# Altium schematic symbol library libSCH.SchLib: 587 symbols (part 4 of 5)
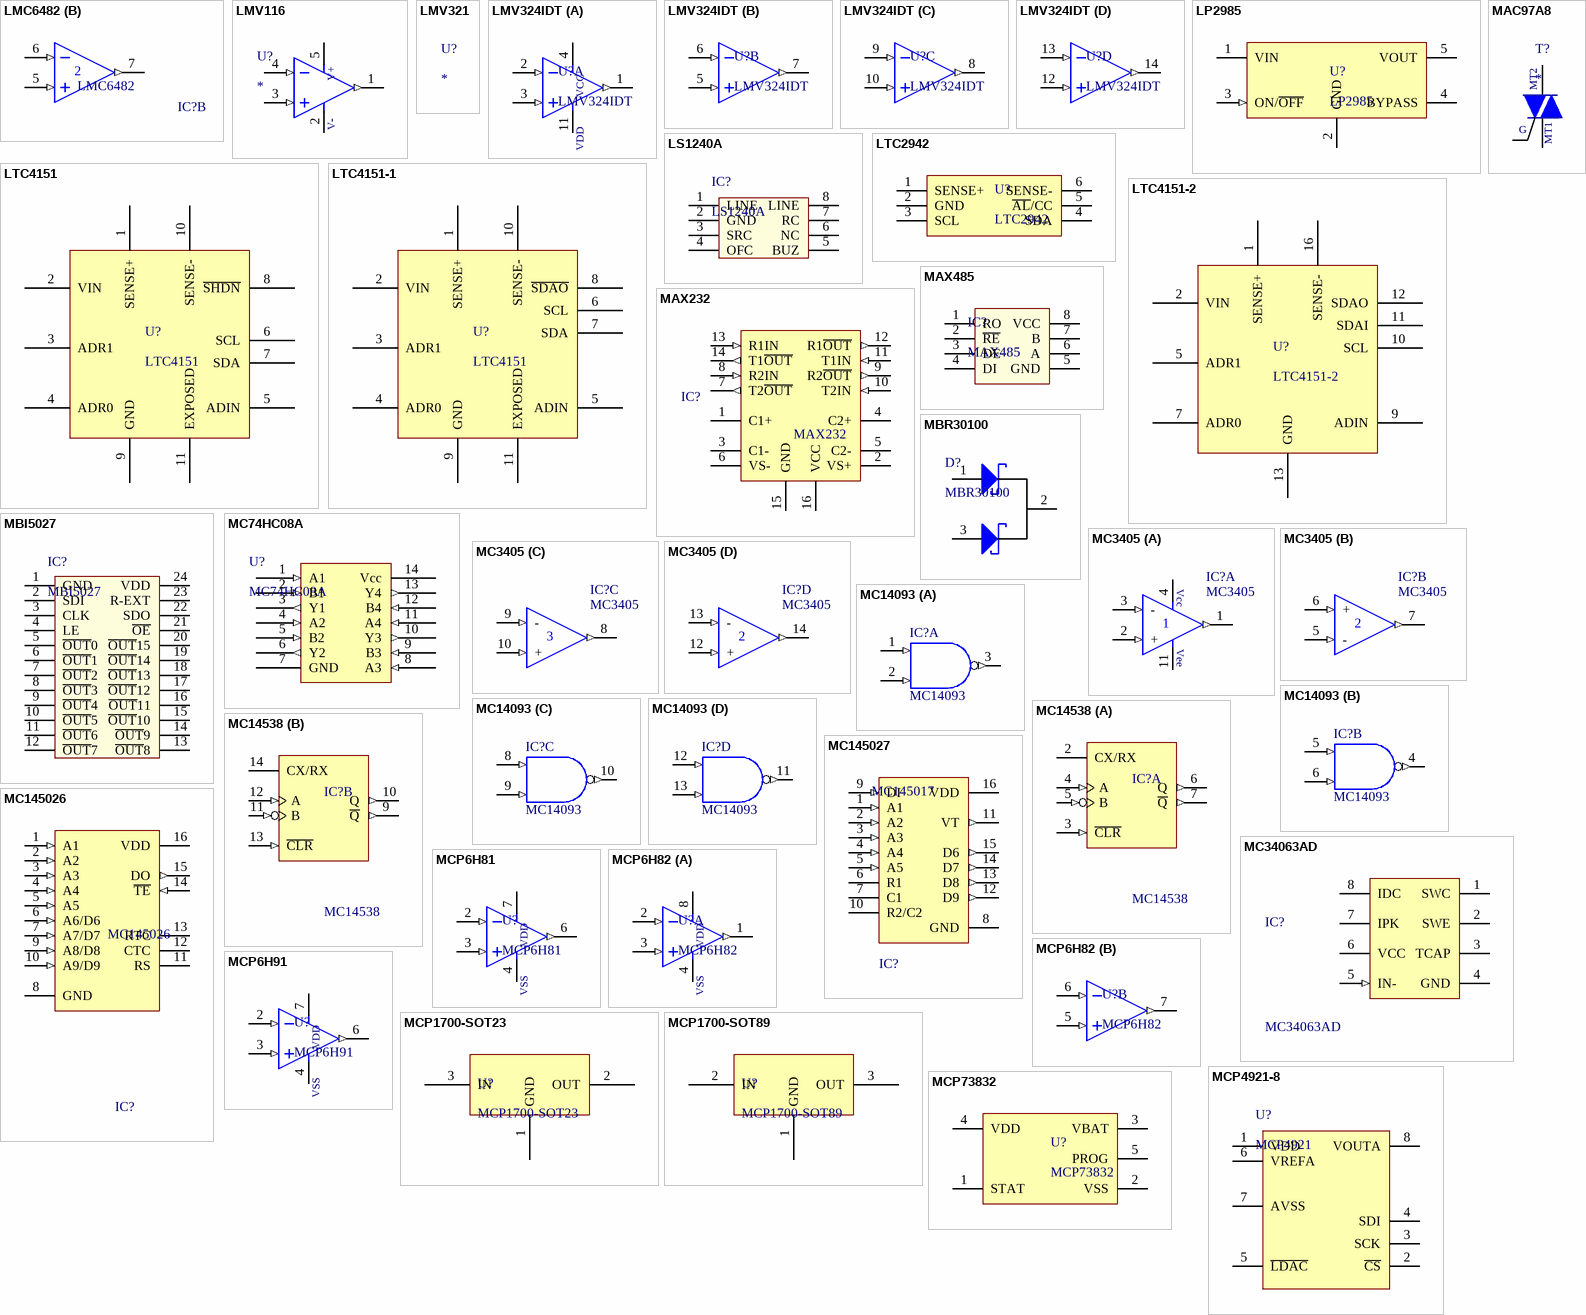
[diagram p28: symbols LMC6482 to MCP73832]

## MCP6H82
designator U?
5.5 MHz, 12V Op Amps
footprint SO-8_L (8-Pin Small Outline Integrated Circuit 1.27 mm Pitch, IPC high Density)
part A pins: 1 OUTA (out), 2 INA- (in), 3 INA+ (in), 4 VSS (power), 8 VDD (power)
part B pins: 5 INB+ (in), 6 INB- (in), 7 OUTB (out)

## MCP6H91
designator U?
10 MHz, 12V Op Amps
footprint SO-8_L (8-Pin Small Outline Integrated Circuit 1.27 mm Pitch, IPC high Density)
pins: 2 IN- (in), 3 IN+ (in), 4 VSS (power), 6 OUT (out), 7 VDD (power)

## MCP1700-SOT23
designator U?
LDO
footprint SOT23 (SOT 23 _ 1-3-2)
pins: 1 GND, 2 OUT, 3 IN

## MCP1700-SOT89
designator U?
LDO
footprint SOT89L (SOT89, 3-Leads, Body 4.5x2.4 mm, Pitch 1.5mm, Lead Span 4.1mm, IPC High Density)
footprint SOT89M (SOT89, 3-Leads, Body 4.5x2.4 mm, Pitch 1.5mm, Lead Span 4.1mm, IPC Low Density)
footprint SOT89N (SOT89, 3-Leads, Body 4.5x2.4 mm, Pitch 1.5mm, Lead Span 4.1mm, IPC Medium Density)
pins: 1 GND, 2 IN, 3 OUT

## MCP4921-8
designator U?, comment MCP4921
12-Bit DAC with SPI™ Interface
footprint DIP8/W0.3 (8 PIN, W 300mil, Pin to pin 100mil)
footprint SOP8
pins: 1 VDD, 2 ~{CS}, 3 SCK, 4 SDI, 5 ~{LDAC}, 6 VREFA, 7 AVSS, 8 VOUTA

## MCP73832
designator U?
Miniature Single-Cell, Fully Integrated Li-Ion,  Li-Polymer Charge Management Controllers
footprint SOT-23-5
pins: 1 STAT, 2 VSS, 3 VBAT, 4 VDD, 5 PROG

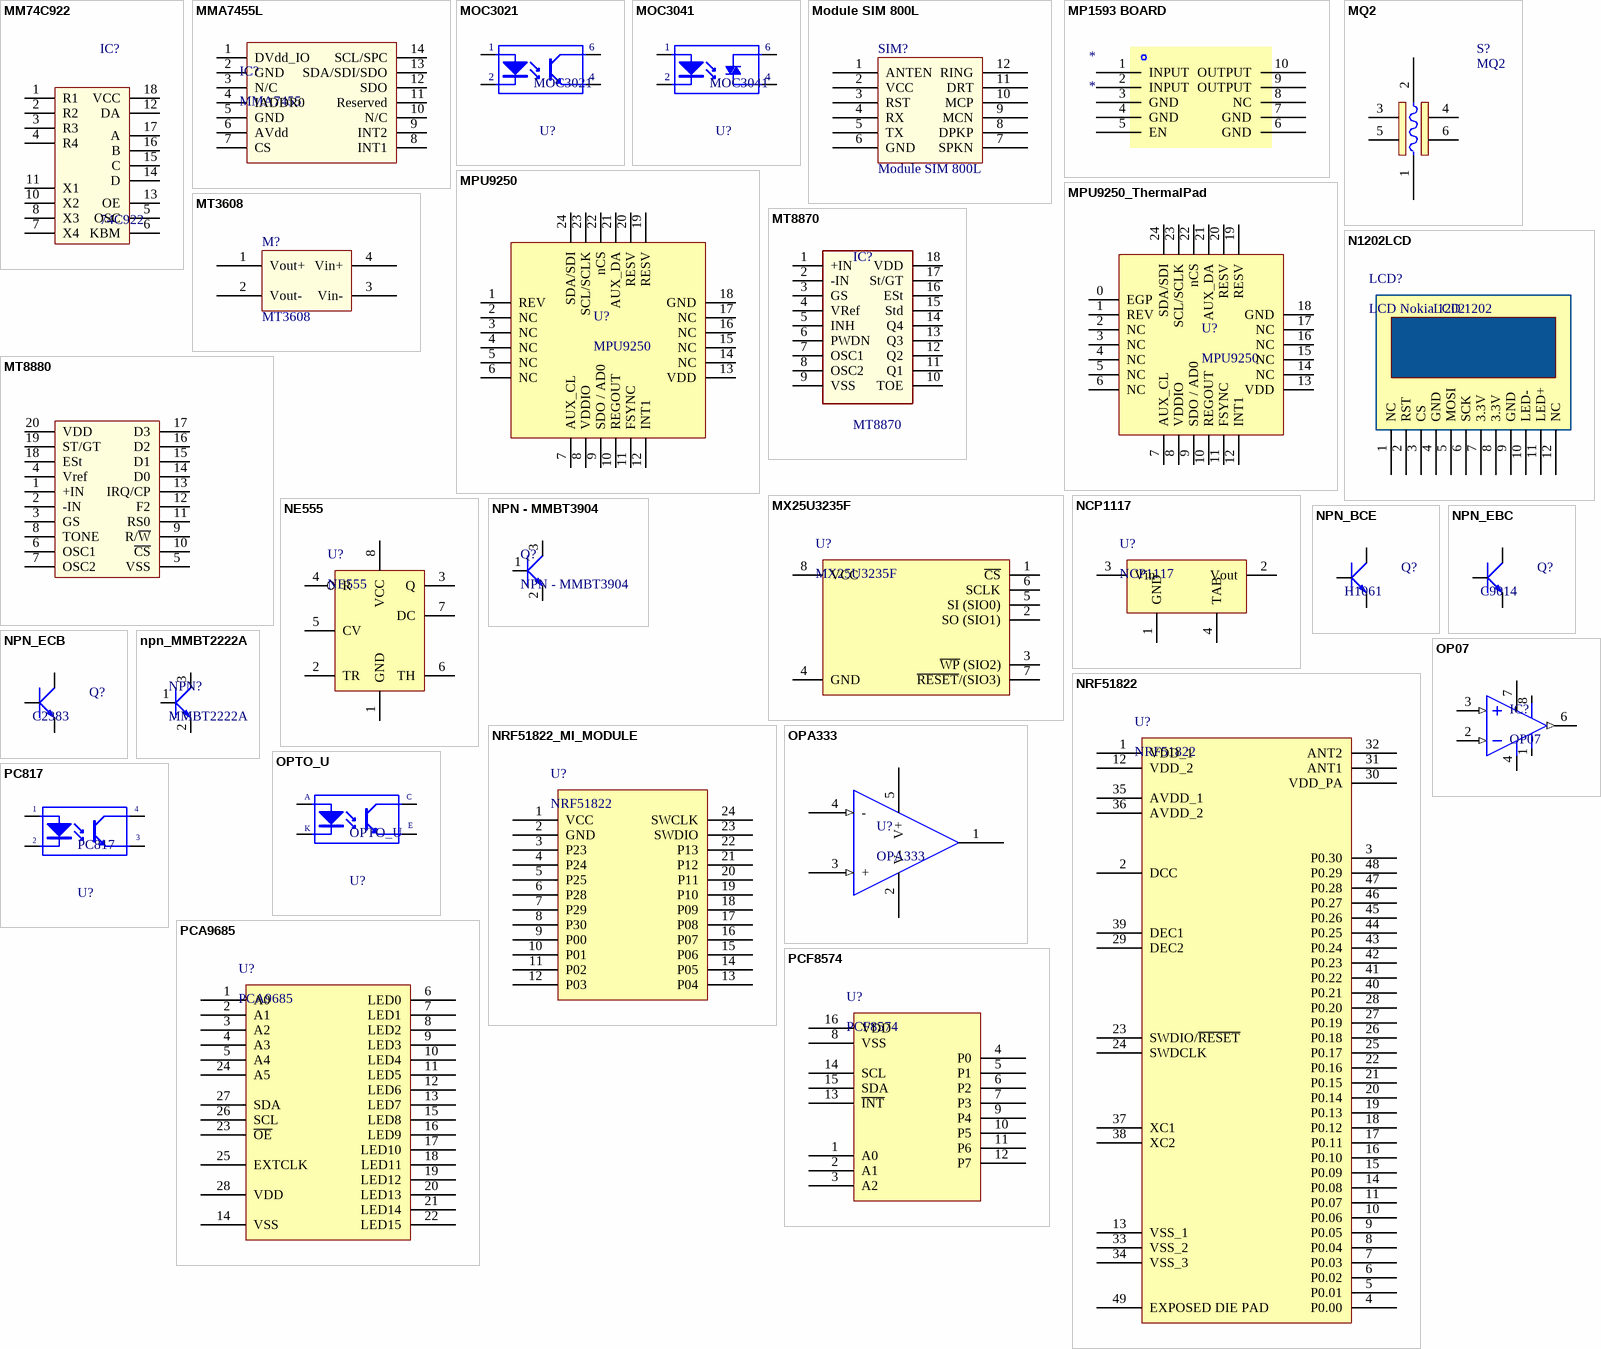
[diagram p17: symbols MM74C922 to PCF8574]

## MM74C922
designator IC?, comment 74C922
16 Key Encoder With Debouncer; Value: MM74C922
footprint DIP18/W0.3 (18 PIN, W 300mil, Pin to pin 100mil)
pins: 1 R1, 2 R2, 3 R3, 4 R4, 5 OSC, 6 KBM, 7 X4, 8 X3, 9 GND hidden to GND, 10 X2, 11 X1, 12 DA, 13 OE, 14 D, 15 C, 16 B, 17 A, 18 VCC

## MMA7455L
designator IC?, comment MMA7455
±2g/±4g/±8g Three Axis Low-g  Digital Output Accelerometer
footprint MMA7455 (Footprint not found)
pins: 1 DVdd_IO, 2 GND, 3 N/C, 4 IADDR0, 5 GND, 6 AVdd, 7 CS, 8 INT1, 9 INT2, 10 N/C, 11 Reserved, 12 SDO, 13 SDA/SDI/SDO, 14 SCL/SPC

## MOC3021
designator U?
Single Opto; Value: MOC3021
footprint DIP6/W0.3 (6 PIN, W 300mil, Pin to pin 100mil)
pins: 1 A "Anode", 2 K "Cathode", 4 E "Emitter", 6 C "Collector"

## MOC3041
designator U?
Single Opto; Value: MOC3021
footprint DIP6/W0.3 (6 PIN, W 300mil, Pin to pin 100mil)
pins: 1 A "Anode", 2 K "Cathode", 4 E "Emitter", 6 C "Collector"

## Module SIM 800L
designator SIM?
footprint SIM800
footprint SIM800L
pins: 1 ANTEN, 2 VCC, 3 RST, 4 RX, 5 TX, 6 GND, 7 SPKN, 8 DPKP, 9 MCN, 10 MCP, 11 DRT, 12 RING

## MP1593 BOARD
designator *
pins: 1 INPUT, 2 INPUT, 3 GND, 4 GND, 5 EN, 6 GND, 7 GND, 8 NC, 9 OUTPUT, 10 OUTPUT

## MPU9250
designator U?
footprint QFN24 3.0x3.0x0.9
pins: 1 REV, 2 NC, 3 NC, 4 NC, 5 NC, 6 NC, 7 AUX_CL, 8 VDDIO, 9 SDO / AD0, 10 REGOUT, 11 FSYNC, 12 INT1, 13 VDD, 14 NC, 15 NC, 16 NC, 17 NC, 18 GND, 19 RESV, 20 RESV, 21 AUX_DA, 22 nCS, 23 SCL/SCLK, 24 SDA/SDI

## MPU9250_ThermalPad
designator U?, comment MPU9250
footprint QFN24 3.0x3.0x0.9 - ThermalPad
pins: 0 EGP, 1 REV, 2 NC, 3 NC, 4 NC, 5 NC, 6 NC, 7 AUX_CL, 8 VDDIO, 9 SDO / AD0, 10 REGOUT, 11 FSYNC, 12 INT1, 13 VDD, 14 NC, 15 NC, 16 NC, 17 NC, 18 GND, 19 RESV, 20 RESV, 21 AUX_DA, 22 nCS, 23 SCL/SCLK, 24 SDA/SDI

## MQ2
designator S?
footprint MQ2
pins: 1 HEAT1, 2 HEAT2, 3 B, 4 A, 5 B, 6 A

## MT3608
designator M?
footprint MT3680
footprint MT3680
pins: 1 Vout+, 2 Vout-, 3 Vin-, 4 Vin+

## MT8870
designator IC?
DTMF RECEIVER IC MT8870 TESTER; Value: MT8068
footprint DIP18/W0.3 (18 PIN, W 300mil, Pin to pin 100mil)
pins: 1 +IN, 2 -IN, 3 GS, 4 VRef, 5 INH, 6 PWDN, 7 OSC1, 8 OSC2, 9 VSS, 10 TOE, 11 Q1, 12 Q2, 13 Q3, 14 Q4, 15 Std, 16 ESt, 17 St/GT, 18 VDD

## MT8880
designator IC?, comment MT8880C
Integrated DTMF Transceiver; Value: DIP20; Value: MT8880C
footprint DIP20/W0.3 (DIP 20, 20 PIN, W 300mil, Pin to pin 100mil)
pins: 1 +IN, 2 -IN, 3 GS, 4 Vref, 5 VSS, 6 OSC1, 7 OSC2, 8 TONE, 9 R/~{W}, 10 ~{CS}, 11 RS0, 12 F2, 13 IRQ/CP, 14 D0, 15 D1, 16 D2, 17 D3, 18 ESt, 19 ST/GT, 20 VDD

## MX25U3235F
designator U?
1.8V 32M-BIT / SERIAL FLASH MEMORY WITH / DUAL, QUAD SPI
footprint SOP8
pins: 1 ~{CS}, 2 SO (SIO1), 3 ~{WP} (SIO2), 4 GND, 5 SI (SIO0), 6 SCLK, 7 ~{RESET}/(SIO3), 8 VCC

## N1202LCD
designator LCD?, comment LCD Nokia 1202
footprint N1202LCD
pins: 1 NC, 2 RST, 3 CS, 4 GND, 5 MOSI, 6 SCK, 7 3.3V, 8 3.3V, 9 GND, 10 LED-, 11 LED+, 12 NC
text: LCD 1202

## NCP1117
designator U?
footprint SOT223_L (SOT223, 4-Leads, Body 6.5x3.5mm, Pitch 2.3mm, Lead Span 7mm, IPC High Density)
footprint SOT223_M (SOT223, 4-Leads, Body 6.5x3.5mm, Pitch 2.3mm, Lead Span 7mm, IPC Low Density)
footprint SOT223_N (SOT223, 4-Leads, Body 6.5x3.5mm, Pitch 2.3mm, Lead Span 7mm, IPC Medium Density)
pins: 1 GND, 2 Vout, 3 Vin, 4 TAB

## NE555
designator U?
footprint DIP8
pins: 1 GND, 2 TR, 3 Q, 4 R, 5 CV, 6 TH, 7 DC, 8 VCC

## NPN - MMBT3904
designator Q?
NPN General Purpose Amplifier
footprint SOT23 (SOT 23 _ 1-3-2)
pins: 1 B, 2 E, 3 C

## NPN_BCE
designator Q?, comment H1061
P 1W, BCE; Value: TIP41
footprint QTO-220 (TO-220 - 1-2-3)
pins: 1 B, 2 C, 3 E

## NPN_EBC
designator Q?, comment C9014
P 600mW, EBC; Value: C9014
footprint QTO-92 (TO-92)
pins: 1 E, 2 B, 3 C

## NPN_ECB
designator Q?, comment C2383
P 600mW, ECB; Value: C1815
footprint QTO-92 (TO-92)
pins: 1 E, 2 C, 3 B

## npn_MMBT2222A
designator NPN?, comment MMBT2222A
TRANS NPN 40V 350MW SMD SOT23-3
footprint SOT23 (SOT 23 _ 1-3-2)
pins: 1 B, 2 E, 3 C

## NRF51822
designator U?
Bluetooth 4.0 SoC MCU
footprint QFN48_6X6
pins: 1 VDD_1, 2 DCC, 3 P0.30, 4 P0.00, 5 P0.01, 6 P0.02, 7 P0.03, 8 P0.04, 9 P0.05, 10 P0.06, 11 P0.07, 12 VDD_2, 13 VSS_1, 14 P0.08, 15 P0.09, 16 P0.10, 17 P0.11, 18 P0.12, 19 P0.13, 20 P0.14, 21 P0.15, 22 P0.16, 23 SWDIO/~{RESET}, 24 SWDCLK, 25 P0.17, 26 P0.18, 27 P0.19, 28 P0.20, 29 DEC2, 30 VDD_PA, 31 ANT1, 32 ANT2, 33 VSS_2, 34 VSS_3, 35 AVDD_1, 36 AVDD_2, 37 XC1, 38 XC2, 39 DEC1, 40 P0.21, 41 P0.22, 42 P0.23, 43 P0.24, 44 P0.25, 45 P0.26, 46 P0.27, 47 P0.28, 48 P0.29, 49 EXPOSED DIE PAD

## NRF51822_MI_MODULE
designator U?, comment NRF51822
footprint NRF51822_M1 hole
pins: 1 VCC, 2 GND, 3 P23, 4 P24, 5 P25, 6 P28, 7 P29, 8 P30, 9 P00, 10 P01, 11 P02, 12 P03, 13 P04, 14 P05, 15 P06, 16 P07, 17 P08, 18 P09, 19 P10, 20 P11, 21 P12, 22 P13, 23 SWDIO, 24 SWCLK

## OP07
designator IC?
Single OA
footprint DIP8/W0.3 (8 PIN, W 300mil, Pin to pin 100mil)
pins: 1 Vos, 2 IN- (in), 3 IN+ (in), 4 -V, 6 OUT (out), 7 +V, 8 Vos

## OPA333
designator U?
1.8-V, microPower, CMOS Operational Amplifiers, Zero-Drift Series; Manufacture: Texas Instruments; Part Number: OPA333; Unit Price: *; Value: OPA333
footprint SOT-23-5
pins: 1 OUT, 2 V-, 3 + (in), 4 - (in), 5 V+

## OPTO_U
designator U?
Single Opto; Value: TLP5211
footprint OPTO_U (Footprint not found)
pins: A "Anode", C "Collector", E "Emitter", K "Cathode"

## PC817
designator U?
Single Opto; Value: PC817
footprint DIP4/W0.3 (4 PIN, W 300mil, Pin to pin 100mil)
pins: 1 A "Anode", 2 K "Cathode", 3 E "Emitter", 4 C "Collector"

## PCA9685
designator U?
16-channel, 12-bit PWM Fm+ I2C-bus LED controller
footprint TSSOP28
pins: 1 A0, 2 A1, 3 A2, 4 A3, 5 A4, 6 LED0, 7 LED1, 8 LED2, 9 LED3, 10 LED4, 11 LED5, 12 LED6, 13 LED7, 14 VSS, 15 LED8, 16 LED9, 17 LED10, 18 LED11, 19 LED12, 20 LED13, 21 LED14, 22 LED15, 23 ~{OE}, 24 A5, 25 EXTCLK, 26 SCL, 27 SDA, 28 VDD

## PCF8574
designator U?
Remote 8-bit I/O expander for I2C-bus with interrupt
footprint SO16-300 (300mil body width)
pins: 1 A0, 2 A1, 3 A2, 4 P0, 5 P1, 6 P2, 7 P3, 8 VSS, 9 P4, 10 P5, 11 P6, 12 P7, 13 ~{INT}, 14 SCL, 15 SDA, 16 VDD

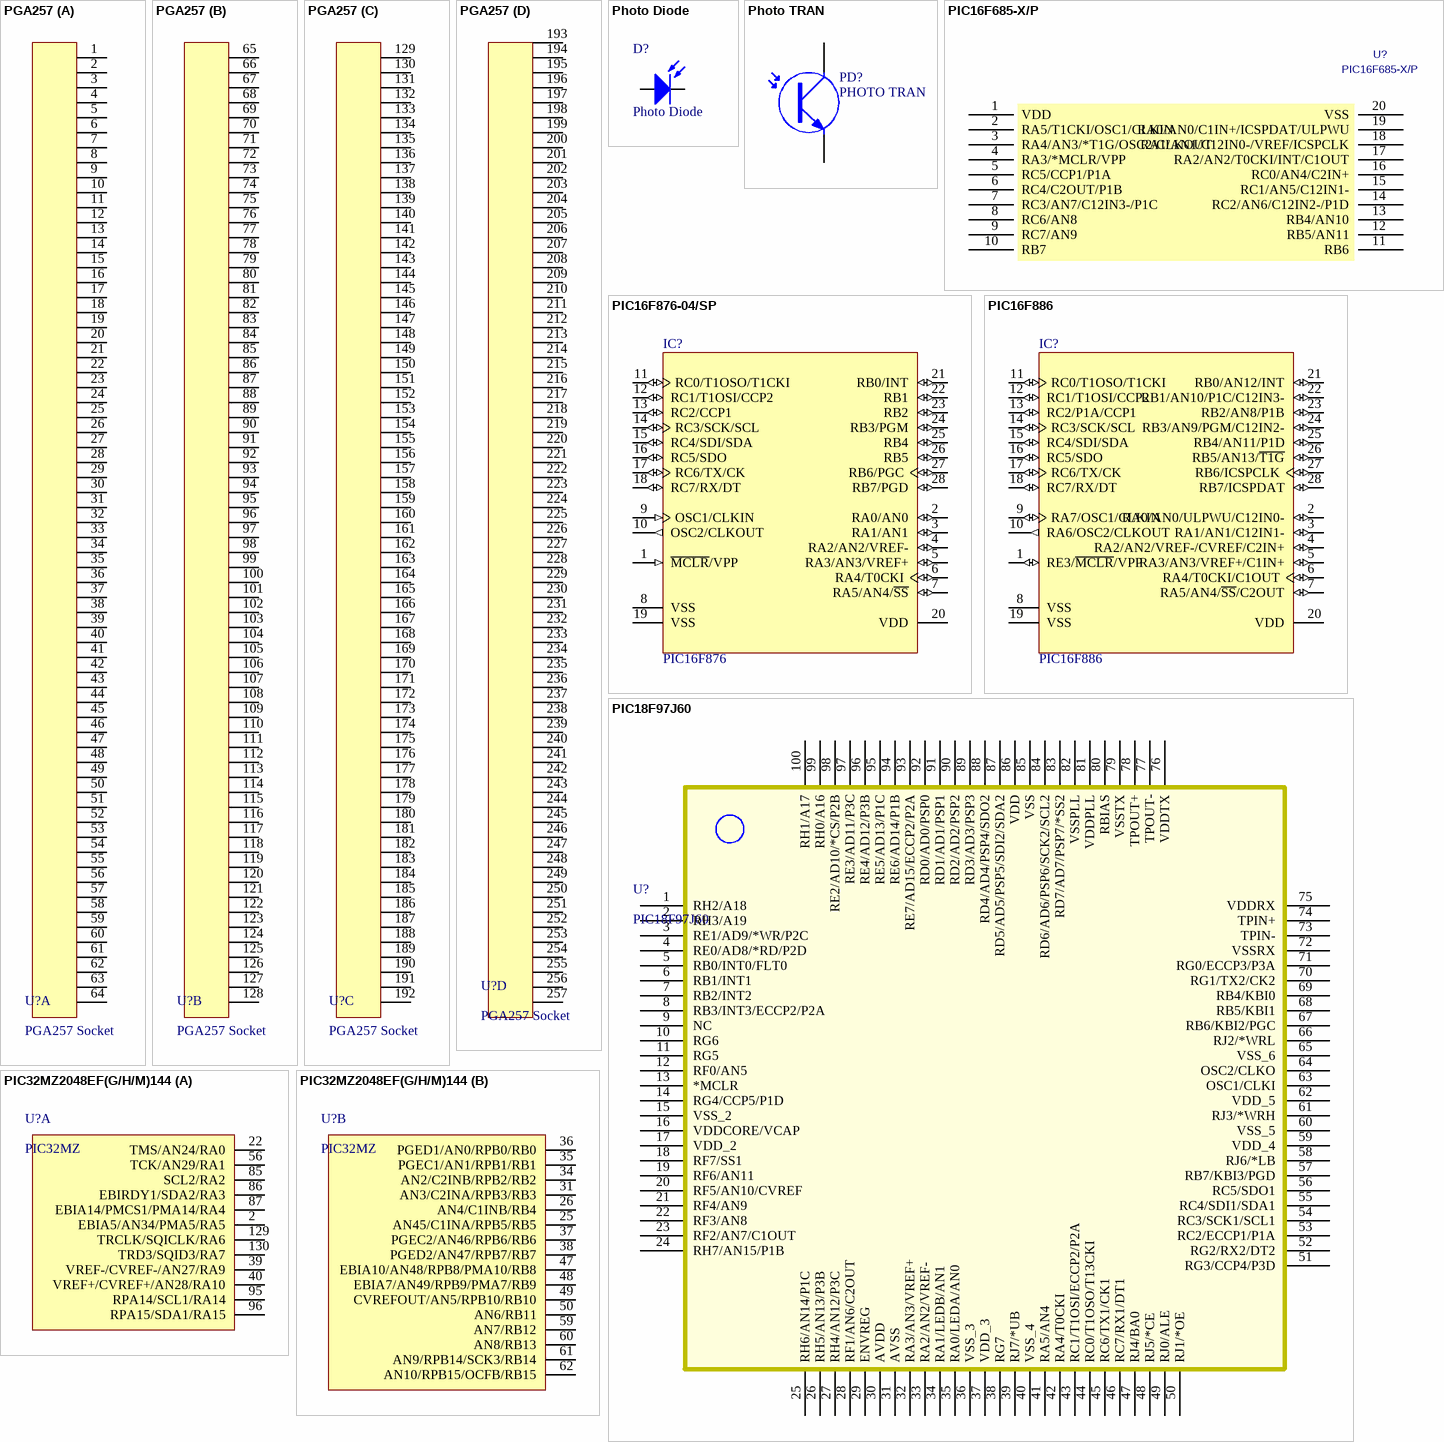
[diagram p18: symbols PGA257 to PIC32MZ2048EF(G/H/M)144]

## PGA257
designator U?, comment PGA257 Socket
footprint PGA-257
part A pins: 1, 2, 3, 4, 5, 6, 7, 8, 9, 10, 11, 12, 13, 14, 15, 16, 17, 18, 19, 20, 21, 22, 23, 24, 25, 26, 27, 28, 29, 30, 31, 32, 33, 34, 35, 36, 37, 38, 39, 40, 41, 42, 43, 44, 45, 46, 47, 48, 49, 50, 51, 52, 53, 54, 55, 56, 57, 58, 59, 60, 61, 62, 63, 64
part B pins: 65, 66, 67, 68, 69, 70, 71, 72, 73, 74, 75, 76, 77, 78, 79, 80, 81, 82, 83, 84, 85, 86, 87, 88, 89, 90, 91, 92, 93, 94, 95, 96, 97, 98, 99, 100, 101, 102, 103, 104, 105, 106, 107, 108, 109, 110, 111, 112, 113, 114, 115, 116, 117, 118, 119, 120, 121, 122, 123, 124, 125, 126, 127, 128
part C pins: 129, 130, 131, 132, 133, 134, 135, 136, 137, 138, 139, 140, 141, 142, 143, 144, 145, 146, 147, 148, 149, 150, 151, 152, 153, 154, 155, 156, 157, 158, 159, 160, 161, 162, 163, 164, 165, 166, 167, 168, 169, 170, 171, 172, 173, 174, 175, 176, 177, 178, 179, 180, 181, 182, 183, 184, 185, 186, 187, 188, 189, 190, 191, 192
part D pins: 193, 194, 195, 196, 197, 198, 199, 200, 201, 202, 203, 204, 205, 206, 207, 208, 209, 210, 211, 212, 213, 214, 215, 216, 217, 218, 219, 220, 221, 222, 223, 224, 225, 226, 227, 228, 229, 230, 231, 232, 233, 234, 235, 236, 237, 238, 239, 240, 241, 242, 243, 244, 245, 246, 247, 248, 249, 250, 251, 252, 253, 254, 255, 256, 257

## Photo Diode
designator D?
Photosensitive Diode
footprint LED-5 GRe (LED 2 PIN, 5 ly , Only colour,pin to pin 100mil)
pins: 1 A, 2 K

## Photo TRAN
designator PD?, comment PHOTO TRAN
Published: 24-Mar-1999; LatestRevisionDate: 17-Jul-2002; LatestRevisionNote: Re-released for DXP Platform.; PackageReference: TO-220_A; Publisher: Altium Limited; Code_JEDEC: TO-220-AC
footprint LED-5TRED (LED 2 PIN, 5 ly , Only colour, pin to pin 110mil)
pins: 1 C, 2 E

## PIC16F685-X/P
designator U?
Value: PIC16F685-X/P
footprint DIP20/W0.3 (DIP 20, 20 PIN, W 300mil, Pin to pin 100mil)
pins: 1 VDD, 2 RA5/T1CKI/OSC1/CLKIN, 3 RA4/AN3/*T1G/OSC2/CLKOUT, 4 RA3/*MCLR/VPP, 5 RC5/CCP1/P1A, 6 RC4/C2OUT/P1B, 7 RC3/AN7/C12IN3-/P1C, 8 RC6/AN8, 9 RC7/AN9, 10 RB7, 11 RB6, 12 RB5/AN11, 13 RB4/AN10, 14 RC2/AN6/C12IN2-/P1D, 15 RC1/AN5/C12IN1-, 16 RC0/AN4/C2IN+, 17 RA2/AN2/T0CKI/INT/C1OUT, 18 RA1/AN1/C12IN0-/VREF/ICSPCLK, 19 RA0/AN0/C1IN+/ICSPDAT/ULPWU, 20 VSS

## PIC16F876-04/SP
designator IC?, comment PIC16F876
8-Bit CMOS FLASH Microcontroller, 8K x 14 words FLASH, 368 x 8 Bytes RAM, 4 MHz, 28-Pin PDIP 300mil, 4 to 5.5V VDD Range, Commercial Temperature
footprint DIP28/w0.3 (28 PIN, W 300mil, Pin to pin 100mil)
pins: 1 ~{MCLR}/VPP (in), 2 RA0/AN0 (io), 3 RA1/AN1 (io), 4 RA2/AN2/VREF- (io), 5 RA3/AN3/VREF+ (io), 6 RA4/T0CKI (io), 7 RA5/AN4/~{SS} (io), 8 VSS (power), 9 OSC1/CLKIN (in), 10 OSC2/CLKOUT (out), 11 RC0/T1OSO/T1CKI (io), 12 RC1/T1OSI/CCP2 (io), 13 RC2/CCP1 (io), 14 RC3/SCK/SCL (io), 15 RC4/SDI/SDA (io), 16 RC5/SDO (io), 17 RC6/TX/CK (io), 18 RC7/RX/DT (io), 19 VSS (power), 20 VDD (power), 21 RB0/INT (io), 22 RB1 (io), 23 RB2 (io), 24 RB3/PGM (io), 25 RB4 (io), 26 RB5 (io), 27 RB6/PGC (io), 28 RB7/PGD (io)

## PIC16F886
designator IC?
8-Bit CMOS FLASH Microcontroller, 8K x 14 words FLASH, 368 x 8 Bytes RAM, 4 MHz, 28-Pin PDIP 300mil, 4 to 5.5V VDD Range, Commercial Temperature
footprint DIP28/W0.3 (28 PIN, W 300mil, Pin to pin 100mil)
pins: 1 RE3/~{MCLR}/VPP (io), 2 RA0/AN0/ULPWU/C12IN0- (io), 3 RA1/AN1/C12IN1- (io), 4 RA2/AN2/VREF-/CVREF/C2IN+ (io), 5 RA3/AN3/VREF+/C1IN+ (io), 6 RA4/T0CKI/C1OUT (io), 7 RA5/AN4/~{SS}/C2OUT (io), 8 VSS (power), 9 RA7/OSC1/CLKIN (io), 10 RA6/OSC2/CLKOUT (out), 11 RC0/T1OSO/T1CKI (io), 12 RC1/T1OSI/CCP2 (io), 13 RC2/P1A/CCP1 (io), 14 RC3/SCK/SCL (io), 15 RC4/SDI/SDA (io), 16 RC5/SDO (io), 17 RC6/TX/CK (io), 18 RC7/RX/DT (io), 19 VSS (power), 20 VDD (power), 21 RB0/AN12/INT (io), 22 RB1/AN10/P1C/C12IN3- (io), 23 RB2/AN8/P1B (io), 24 RB3/AN9/PGM/C12IN2- (io), 25 RB4/AN11/P1D (io), 26 RB5/AN13/~{T1G} (io), 27 RB6/ICSPCLK (io), 28 RB7/ICSPDAT (io)

## PIC18F97J60
designator U?
High-Performance,  1-Mbit Flash Microcontrollers  with Ethernet
footprint TQFP100_12X12MC
pins: 1 RH2/A18, 2 RH3/A19, 3 RE1/AD9/*WR/P2C, 4 RE0/AD8/*RD/P2D, 5 RB0/INT0/FLT0, 6 RB1/INT1, 7 RB2/INT2, 8 RB3/INT3/ECCP2/P2A, 9 NC, 10 RG6, 11 RG5, 12 RF0/AN5, 13 *MCLR, 14 RG4/CCP5/P1D, 15 VSS_2, 16 VDDCORE/VCAP, 17 VDD_2, 18 RF7/SS1, 19 RF6/AN11, 20 RF5/AN10/CVREF, 21 RF4/AN9, 22 RF3/AN8, 23 RF2/AN7/C1OUT, 24 RH7/AN15/P1B, 25 RH6/AN14/P1C, 26 RH5/AN13/P3B, 27 RH4/AN12/P3C, 28 RF1/AN6/C2OUT, 29 ENVREG, 30 AVDD, 31 AVSS, 32 RA3/AN3/VREF+, 33 RA2/AN2/VREF-, 34 RA1/LEDB/AN1, 35 RA0/LEDA/AN0, 36 VSS_3, 37 VDD_3, 38 RG7, 39 RJ7/*UB, 40 VSS_4, 41 RA5/AN4, 42 RA4/T0CKI, 43 RC1/T1OSI/ECCP2/P2A, 44 RC0/T1OSO/T13CKI, 45 RC6/TX1/CK1, 46 RC7/RX1/DT1, 47 RJ4/BA0, 48 RJ5/*CE, 49 RJ0/ALE, 50 RJ1/*OE, 51 RG3/CCP4/P3D, 52 RG2/RX2/DT2, 53 RC2/ECCP1/P1A, 54 RC3/SCK1/SCL1, 55 RC4/SDI1/SDA1, 56 RC5/SDO1, 57 RB7/KBI3/PGD, 58 RJ6/*LB, 59 VDD_4, 60 VSS_5, 61 RJ3/*WRH, 62 VDD_5, 63 OSC1/CLKI, 64 OSC2/CLKO, 65 VSS_6, 66 RJ2/*WRL, 67 RB6/KBI2/PGC, 68 RB5/KBI1, 69 RB4/KBI0, 70 RG1/TX2/CK2, 71 RG0/ECCP3/P3A, 72 VSSRX, 73 TPIN-, 74 TPIN+, 75 VDDRX, 76 VDDTX, 77 TPOUT-, 78 TPOUT+, 79 VSSTX, 80 RBIAS, 81 VDDPLL, 82 VSSPLL, 83 RD7/AD7/PSP7/*SS2, 84 RD6/AD6/PSP6/SCK2/SCL2, 85 VSS, 86 VDD, 87 RD5/AD5/PSP5/SDI2/SDA2, 88 RD4/AD4/PSP4/SDO2, 89 RD3/AD3/PSP3, 90 RD2/AD2/PSP2, 91 RD1/AD1/PSP1, 92 RD0/AD0/PSP0, 93 RE7/AD15/ECCP2/P2A, 94 RE6/AD14/P1B, 95 RE5/AD13/P1C, 96 RE4/AD12/P3B, 97 RE3/AD11/P3C, 98 RE2/AD10/*CS/P2B, 99 RH0/A16, 100 RH1/A17

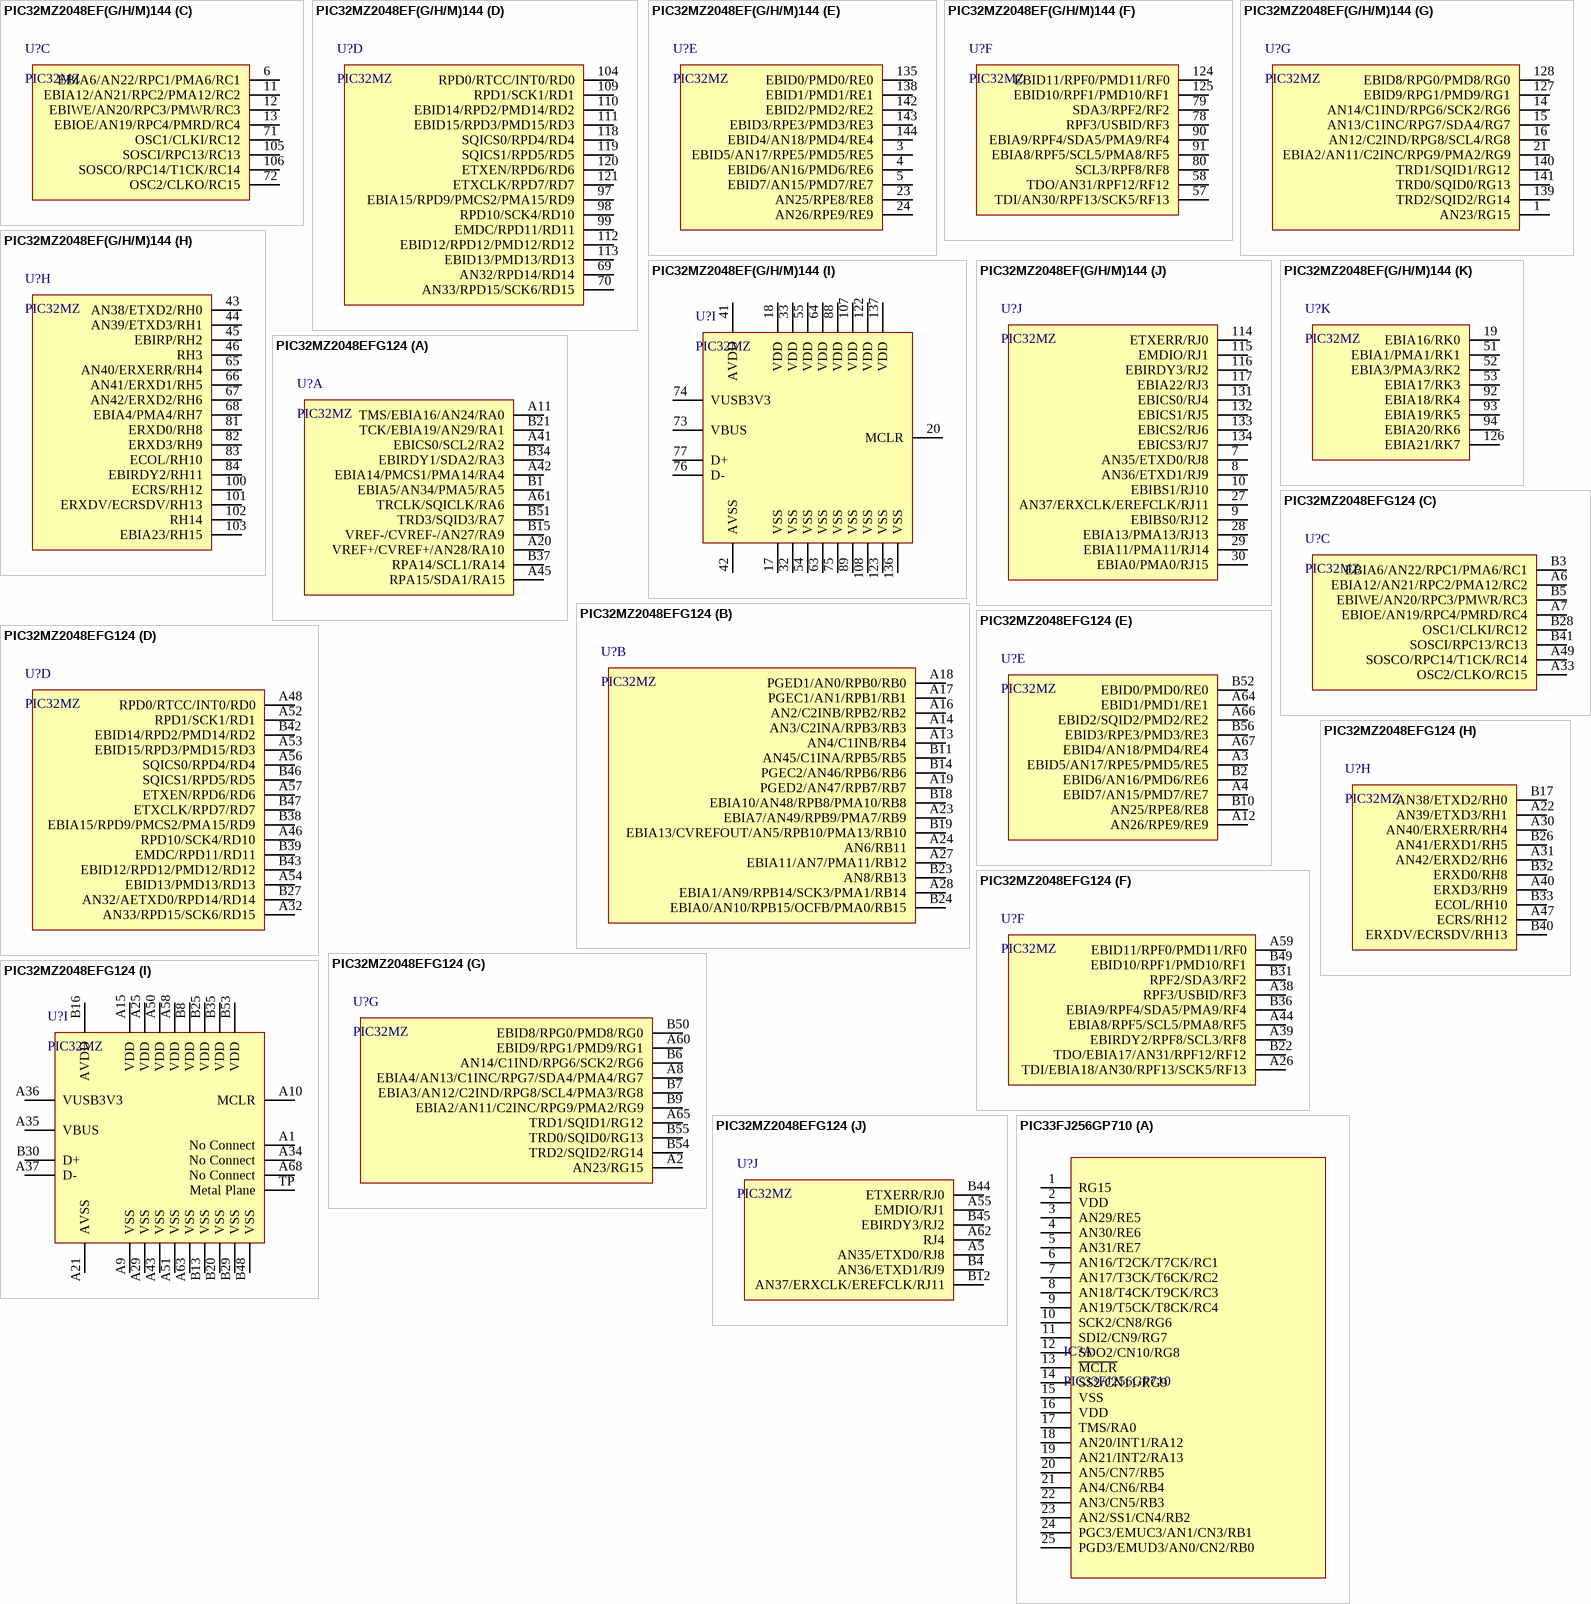
[diagram p19: symbols PIC32MZ2048EF(G/H/M)144 to PIC33FJ256GP710]

## PIC32MZ2048EF(G/H/M)144
designator U?, comment PIC32MZ
PIC32MZ Embedded Connectivity with Floating Point Unit (EF) Family
footprint LQFP144_05
part A pins: 2 EBIA5/AN34/PMA5/RA5, 22 TMS/AN24/RA0, 39 VREF-/CVREF-/AN27/RA9, 40 VREF+/CVREF+/AN28/RA10, 56 TCK/AN29/RA1, 85 SCL2/RA2, 86 EBIRDY1/SDA2/RA3, 87 EBIA14/PMCS1/PMA14/RA4, 95 RPA14/SCL1/RA14, 96 RPA15/SDA1/RA15, 129 TRCLK/SQICLK/RA6, 130 TRD3/SQID3/RA7
part B pins: 25 AN45/C1INA/RPB5/RB5, 26 AN4/C1INB/RB4, 31 AN3/C2INA/RPB3/RB3, 34 AN2/C2INB/RPB2/RB2, 35 PGEC1/AN1/RPB1/RB1, 36 PGED1/AN0/RPB0/RB0, 37 PGEC2/AN46/RPB6/RB6, 38 PGED2/AN47/RPB7/RB7, 47 EBIA10/AN48/RPB8/PMA10/RB8, 48 EBIA7/AN49/RPB9/PMA7/RB9, 49 CVREFOUT/AN5/RPB10/RB10, 50 AN6/RB11, 59 AN7/RB12, 60 AN8/RB13, 61 AN9/RPB14/SCK3/RB14, 62 AN10/RPB15/OCFB/RB15
part C pins: 6 EBIA6/AN22/RPC1/PMA6/RC1, 11 EBIA12/AN21/RPC2/PMA12/RC2, 12 EBIWE/AN20/RPC3/PMWR/RC3, 13 EBIOE/AN19/RPC4/PMRD/RC4, 71 OSC1/CLKI/RC12, 72 OSC2/CLKO/RC15, 105 SOSCI/RPC13/RC13, 106 SOSCO/RPC14/T1CK/RC14
part D pins: 69 AN32/RPD14/RD14, 70 AN33/RPD15/SCK6/RD15, 97 EBIA15/RPD9/PMCS2/PMA15/RD9, 98 RPD10/SCK4/RD10, 99 EMDC/RPD11/RD11, 104 RPD0/RTCC/INT0/RD0, 109 RPD1/SCK1/RD1, 110 EBID14/RPD2/PMD14/RD2, 111 EBID15/RPD3/PMD15/RD3, 112 EBID12/RPD12/PMD12/RD12, 113 EBID13/PMD13/RD13, 118 SQICS0/RPD4/RD4, 119 SQICS1/RPD5/RD5, 120 ETXEN/RPD6/RD6, 121 ETXCLK/RPD7/RD7
part E pins: 3 EBID5/AN17/RPE5/PMD5/RE5, 4 EBID6/AN16/PMD6/RE6, 5 EBID7/AN15/PMD7/RE7, 23 AN25/RPE8/RE8, 24 AN26/RPE9/RE9, 135 EBID0/PMD0/RE0, 138 EBID1/PMD1/RE1, 142 EBID2/PMD2/RE2, 143 EBID3/RPE3/PMD3/RE3, 144 EBID4/AN18/PMD4/RE4
part F pins: 57 TDI/AN30/RPF13/SCK5/RF13, 58 TDO/AN31/RPF12/RF12, 78 RPF3/USBID/RF3, 79 SDA3/RPF2/RF2, 80 SCL3/RPF8/RF8, 90 EBIA9/RPF4/SDA5/PMA9/RF4, 91 EBIA8/RPF5/SCL5/PMA8/RF5, 124 EBID11/RPF0/PMD11/RF0, 125 EBID10/RPF1/PMD10/RF1
part G pins: 1 AN23/RG15, 14 AN14/C1IND/RPG6/SCK2/RG6, 15 AN13/C1INC/RPG7/SDA4/RG7, 16 AN12/C2IND/RPG8/SCL4/RG8, 21 EBIA2/AN11/C2INC/RPG9/PMA2/RG9, 127 EBID9/RPG1/PMD9/RG1, 128 EBID8/RPG0/PMD8/RG0, 139 TRD2/SQID2/RG14, 140 TRD1/SQID1/RG12, 141 TRD0/SQID0/RG13
part H pins: 43 AN38/ETXD2/RH0, 44 AN39/ETXD3/RH1, 45 EBIRP/RH2, 46 RH3, 65 AN40/ERXERR/RH4, 66 AN41/ERXD1/RH5, 67 AN42/ERXD2/RH6, 68 EBIA4/PMA4/RH7, 81 ERXD0/RH8, 82 ERXD3/RH9, 83 ECOL/RH10, 84 EBIRDY2/RH11, 100 ECRS/RH12, 101 ERXDV/ECRSDV/RH13, 102 RH14, 103 EBIA23/RH15
part I pins: 17 VSS, 18 VDD, 20 MCLR, 32 VSS, 33 VDD, 41 AVDD, 42 AVSS, 54 VSS, 55 VDD, 63 VSS, 64 VDD, 73 VBUS, 74 VUSB3V3, 75 VSS, 76 D-, 77 D+, 88 VDD, 89 VSS, 107 VDD, 108 VSS, 122 VDD, 123 VSS, 136 VSS, 137 VDD
part J pins: 7 AN35/ETXD0/RJ8, 8 AN36/ETXD1/RJ9, 9 EBIBS0/RJ12, 10 EBIBS1/RJ10, 27 AN37/ERXCLK/EREFCLK/RJ11, 28 EBIA13/PMA13/RJ13, 29 EBIA11/PMA11/RJ14, 30 EBIA0/PMA0/RJ15, 114 ETXERR/RJ0, 115 EMDIO/RJ1, 116 EBIRDY3/RJ2, 117 EBIA22/RJ3, 131 EBICS0/RJ4, 132 EBICS1/RJ5, 133 EBICS2/RJ6, 134 EBICS3/RJ7
part K pins: 19 EBIA16/RK0, 51 EBIA1/PMA1/RK1, 52 EBIA3/PMA3/RK2, 53 EBIA17/RK3, 92 EBIA18/RK4, 93 EBIA19/RK5, 94 EBIA20/RK6, 126 EBIA21/RK7

## PIC32MZ2048EFG124
designator U?, comment PIC32MZ
PIC32MZ Embedded Connectivity with Floating Point Unit (EF) Family
footprint VTLA124 (124-Terminal Very Thin Leadless Array Package - 9x9x0.9 mm Body)
part A pins: A11 TMS/EBIA16/AN24/RA0, A20 VREF+/CVREF+/AN28/RA10, A41 EBICS0/SCL2/RA2, A42 EBIA14/PMCS1/PMA14/RA4, A45 RPA15/SDA1/RA15, A61 TRCLK/SQICLK/RA6, B1 EBIA5/AN34/PMA5/RA5, B15 VREF-/CVREF-/AN27/RA9, B21 TCK/EBIA19/AN29/RA1, B34 EBIRDY1/SDA2/RA3, B37 RPA14/SCL1/RA14, B51 TRD3/SQID3/RA7
part B pins: A13 AN4/C1INB/RB4, A14 AN3/C2INA/RPB3/RB3, A16 AN2/C2INB/RPB2/RB2, A17 PGEC1/AN1/RPB1/RB1, A18 PGED1/AN0/RPB0/RB0, A19 PGED2/AN47/RPB7/RB7, A23 EBIA7/AN49/RPB9/PMA7/RB9, A24 AN6/RB11, A27 EBIA11/AN7/PMA11/RB12, A28 EBIA1/AN9/RPB14/SCK3/PMA1/RB14, B11 AN45/C1INA/RPB5/RB5, B14 PGEC2/AN46/RPB6/RB6, B18 EBIA10/AN48/RPB8/PMA10/RB8, B19 EBIA13/CVREFOUT/AN5/RPB10/PMA13/RB10, B23 AN8/RB13, B24 EBIA0/AN10/RPB15/OCFB/PMA0/RB15
part C pins: A6 EBIA12/AN21/RPC2/PMA12/RC2, A7 EBIOE/AN19/RPC4/PMRD/RC4, A33 OSC2/CLKO/RC15, A49 SOSCO/RPC14/T1CK/RC14, B3 EBIA6/AN22/RPC1/PMA6/RC1, B5 EBIWE/AN20/RPC3/PMWR/RC3, B28 OSC1/CLKI/RC12, B41 SOSCI/RPC13/RC13
part D pins: A32 AN33/RPD15/SCK6/RD15, A46 RPD10/SCK4/RD10, A48 RPD0/RTCC/INT0/RD0, A52 RPD1/SCK1/RD1, A53 EBID15/RPD3/PMD15/RD3, A54 EBID13/PMD13/RD13, A56 SQICS0/RPD4/RD4, A57 ETXEN/RPD6/RD6, B27 AN32/AETXD0/RPD14/RD14, B38 EBIA15/RPD9/PMCS2/PMA15/RD9, B39 EMDC/RPD11/RD11, B42 EBID14/RPD2/PMD14/RD2, B43 EBID12/RPD12/PMD12/RD12, B46 SQICS1/RPD5/RD5, B47 ETXCLK/RPD7/RD7
part E pins: A3 EBID5/AN17/RPE5/PMD5/RE5, A4 EBID7/AN15/PMD7/RE7, A12 AN26/RPE9/RE9, A64 EBID1/PMD1/RE1, A66 EBID2/SQID2/PMD2/RE2, A67 EBID4/AN18/PMD4/RE4, B2 EBID6/AN16/PMD6/RE6, B10 AN25/RPE8/RE8, B52 EBID0/PMD0/RE0, B56 EBID3/RPE3/PMD3/RE3
part F pins: A26 TDI/EBIA18/AN30/RPF13/SCK5/RF13, A38 RPF3/USBID/RF3, A39 EBIRDY2/RPF8/SCL3/RF8, A44 EBIA8/RPF5/SCL5/PMA8/RF5, A59 EBID11/RPF0/PMD11/RF0, B22 TDO/EBIA17/AN31/RPF12/RF12, B31 RPF2/SDA3/RF2, B36 EBIA9/RPF4/SDA5/PMA9/RF4, B49 EBID10/RPF1/PMD10/RF1
part G pins: A2 AN23/RG15, A8 EBIA4/AN13/C1INC/RPG7/SDA4/PMA4/RG7, A60 EBID9/RPG1/PMD9/RG1, A65 TRD1/SQID1/RG12, B6 AN14/C1IND/RPG6/SCK2/RG6, B7 EBIA3/AN12/C2IND/RPG8/SCL4/PMA3/RG8, B9 EBIA2/AN11/C2INC/RPG9/PMA2/RG9, B50 EBID8/RPG0/PMD8/RG0, B54 TRD2/SQID2/RG14, B55 TRD0/SQID0/RG13
part H pins: A22 AN39/ETXD3/RH1, A30 AN40/ERXERR/RH4, A31 AN42/ERXD2/RH6, A40 ERXD3/RH9, A47 ECRS/RH12, B17 AN38/ETXD2/RH0, B26 AN41/ERXD1/RH5, B32 ERXD0/RH8, B33 ECOL/RH10, B40 ERXDV/ECRSDV/RH13
part I pins: A1 No Connect, A9 VSS (power), A10 MCLR (power), A15 VDD (power), A21 AVSS (power), A25 VDD (power), A29 VSS (power), A34 No Connect, A35 VBUS (power), A36 VUSB3V3 (power), A37 D-, A43 VSS (power), A50 VDD (power), A51 VSS (power), A58 VDD (power), A63 VSS (power), A68 No Connect, B8 VDD (power), B13 VSS (power), B16 AVDD (power), B20 VSS (power), B25 VDD (power), B29 VSS (power), B30 D+, B35 VDD (power), B48 VSS (power), B53 VDD (power), TP Metal Plane
part J pins: A5 AN35/ETXD0/RJ8, A55 EMDIO/RJ1, A62 RJ4, B4 AN36/ETXD1/RJ9, B12 AN37/ERXCLK/EREFCLK/RJ11, B44 ETXERR/RJ0, B45 EBIRDY3/RJ2

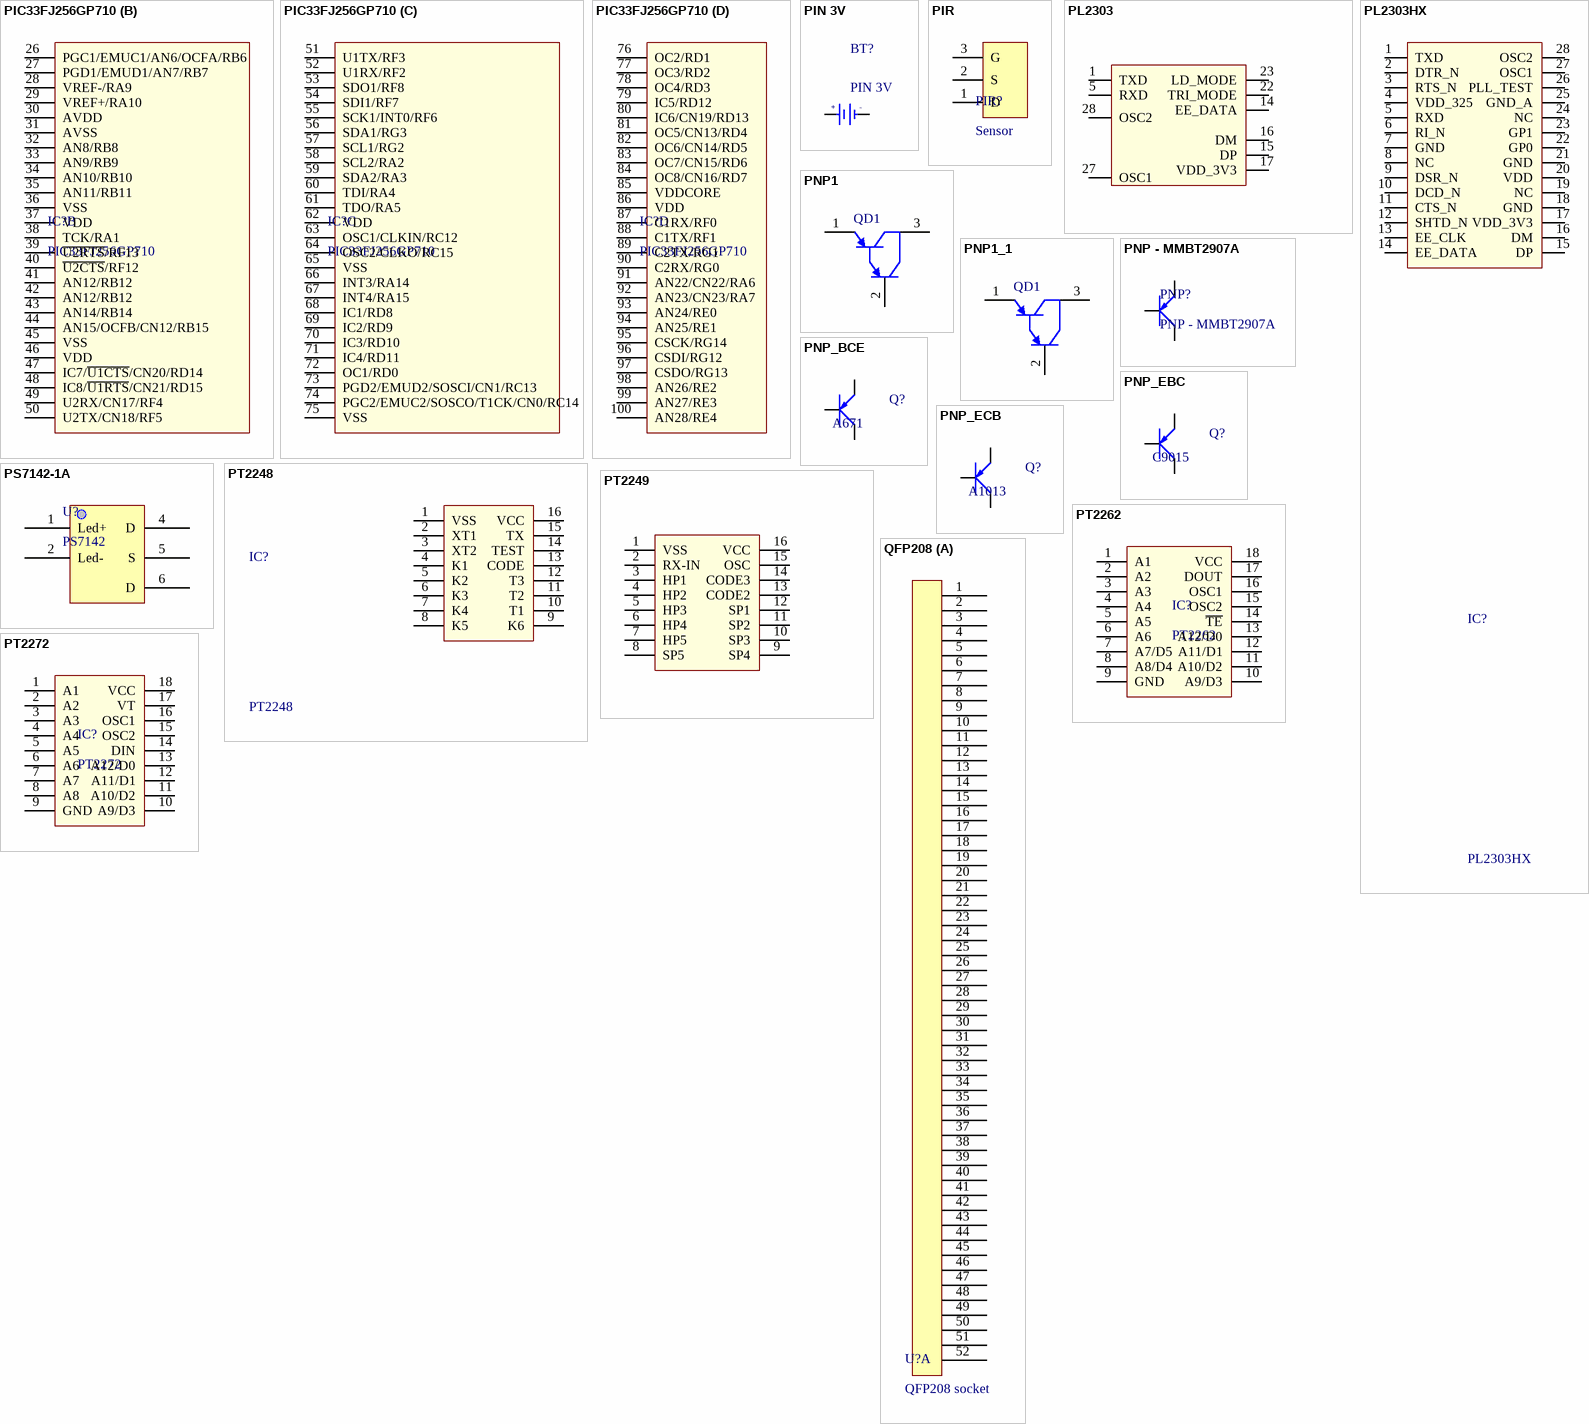
[diagram p20: symbols PIC33FJ256GP710 to QFP208]

## PIC33FJ256GP710
designator IC?
Value: DIP100
footprint DIP100_2M (DIP100 - P-P 2mm)
footprint TQFP-100-12X12 (Shrink QFP, 100-Leads, Body 12x12mm, Pitch 0.4mm, IPC High Density)
part A pins: 1 RG15, 2 VDD, 3 AN29/RE5, 4 AN30/RE6, 5 AN31/RE7, 6 AN16/T2CK/T7CK/RC1, 7 AN17/T3CK/T6CK/RC2, 8 AN18/T4CK/T9CK/RC3, 9 AN19/T5CK/T8CK/RC4, 10 SCK2/CN8/RG6, 11 SDI2/CN9/RG7, 12 SDO2/CN10/RG8, 13 ~{MCLR}, 14 SS2/CN11/RG9, 15 VSS, 16 VDD, 17 TMS/RA0, 18 AN20/INT1/RA12, 19 AN21/INT2/RA13, 20 AN5/CN7/RB5, 21 AN4/CN6/RB4, 22 AN3/CN5/RB3, 23 AN2/SS1/CN4/RB2, 24 PGC3/EMUC3/AN1/CN3/RB1, 25 PGD3/EMUD3/AN0/CN2/RB0
part B pins: 26 PGC1/EMUC1/AN6/OCFA/RB6, 27 PGD1/EMUD1/AN7/RB7, 28 VREF-/RA9, 29 VREF+/RA10, 30 AVDD, 31 AVSS, 32 AN8/RB8, 33 AN9/RB9, 34 AN10/RB10, 35 AN11/RB11, 36 VSS, 37 VDD, 38 TCK/RA1, 39 ~{U2RTS}/RF13, 40 ~{U2CTS}/RF12, 41 AN12/RB12, 42 AN12/RB12, 43 AN14/RB14, 44 AN15/OCFB/CN12/RB15, 45 VSS, 46 VDD, 47 IC7/~{U1CTS}/CN20/RD14, 48 IC8/~{U1RTS}/CN21/RD15, 49 U2RX/CN17/RF4, 50 U2TX/CN18/RF5
part C pins: 51 U1TX/RF3, 52 U1RX/RF2, 53 SDO1/RF8, 54 SDI1/RF7, 55 SCK1/INT0/RF6, 56 SDA1/RG3, 57 SCL1/RG2, 58 SCL2/RA2, 59 SDA2/RA3, 60 TDI/RA4, 61 TDO/RA5, 62 VDD, 63 OSC1/CLKIN/RC12, 64 OSC2/CLKO/RC15, 65 VSS, 66 INT3/RA14, 67 INT4/RA15, 68 IC1/RD8, 69 IC2/RD9, 70 IC3/RD10, 71 IC4/RD11, 72 OC1/RD0, 73 PGD2/EMUD2/SOSCI/CN1/RC13, 74 PGC2/EMUC2/SOSCO/T1CK/CN0/RC14, 75 VSS
part D pins: 76 OC2/RD1, 77 OC3/RD2, 78 OC4/RD3, 79 IC5/RD12, 80 IC6/CN19/RD13, 81 OC5/CN13/RD4, 82 OC6/CN14/RD5, 83 OC7/CN15/RD6, 84 OC8/CN16/RD7, 85 VDDCORE, 86 VDD, 87 C1RX/RF0, 88 C1TX/RF1, 89 C2TX/RG1, 90 C2RX/RG0, 91 AN22/CN22/RA6, 92 AN23/CN23/RA7, 93 AN24/RE0, 94 AN25/RE1, 95 CSCK/RG14, 96 CSDI/RG12, 97 CSDO/RG13, 98 AN26/RE2, 99 AN27/RE3, 100 AN28/RE4

## PIN 3V
designator BT?
Battery 3VDC; Value: PIN 3V
footprint PIN3V (Socket PIN 3V)
footprint PIN 3V-S (Socket PIN 3V)
footprint PIN CR1220-SMD
footprint PIN CR1220-DIP
footprint PIN1081TR (De pin CMOS SMD CR2030)
footprint PIN3V_mini (Socket PIN 3V)
pins: 1 +3V, 2 GND
text: +; -

## PIR
designator PIR?, comment Sensor
pins: 1 D (power), 2 S, 3 G (power)

## PL2303
designator IC?
USB - RS232 Converter; Value: PL2303
footprint SO-G28/C6.8 (SSOP, Plastic; 28 Leads; Body Width 5.3 mm; Pitch 0.65 mm)
pins: 1 TXD, 2 DTR_N hidden, 3 RTS_N hidden, 4 VDD_232 hidden to VCC, 5 RXD, 6 RI_N hidden to GND, 7 GND hidden to GND, 8 VDD hidden to VCC, 9 DSR_N hidden to GND, 10 DCD_N hidden to GND, 11 CTS_N hidden to VCC, 12 SHTD_N hidden, 13 EE_CLK hidden, 14 EE_DATA, 15 DP, 16 DM, 17 VDD_3V3, 18 GND_3V3 hidden to GND, 19 RESET hidden to VCC, 20 VDD hidden to VCC, 21 GND hidden to GND, 22 TRI_MODE, 23 LD_MODE, 24 VDD_PLL hidden to VCC, 25 GND_PLL hidden to GND, 26 PLL_TEST hidden to GND, 27 OSC1, 28 OSC2

## PL2303HX
designator IC?
USB - RS232 Converter; Value: PL2303
footprint SO-G28/C6.8 (SSOP, Plastic; 28 Leads; Body Width 5.3 mm; Pitch 0.65 mm)
pins: 1 TXD, 2 DTR_N, 3 RTS_N, 4 VDD_325, 5 RXD, 6 RI_N, 7 GND, 8 NC, 9 DSR_N, 10 DCD_N, 11 CTS_N, 12 SHTD_N, 13 EE_CLK, 14 EE_DATA, 15 DP, 16 DM, 17 VDD_3V3, 18 GND, 19 NC, 20 VDD, 21 GND, 22 GP0, 23 GP1, 24 NC, 25 GND_A, 26 PLL_TEST, 27 OSC1, 28 OSC2

## PNP1
designator QD1  (value not drawn)
PNP Darlington Bipolar Transistor; PackageDocument: 1995/1996; Value: B688; Published: 8-Jun-2000; LatestRevisionDate: 17-Jul-2002; LatestRevisionNote: Re-released for DXP Platform.; DatasheetDocument: May-1994; PackageReference: E3; Publisher: Altium Limited; ComponentLink1Description: Manufacturer Link; ComponentLink1URL: http://www.zetex.com/
footprint QTO-247 (TO-247)
pins: 1 E, 2 B, 3 C

## PNP1_1
designator QD1, comment PNP1  (value not drawn)
PNP Darlington Bipolar Transistor; PackageDocument: 1995/1996; Value: B688; Published: 8-Jun-2000; LatestRevisionDate: 17-Jul-2002; LatestRevisionNote: Re-released for DXP Platform.; DatasheetDocument: May-1994; PackageReference: E3; Publisher: Altium Limited; ComponentLink1Description: Manufacturer Link; ComponentLink1URL: http://www.zetex.com/
footprint QTO-247 (TO-247)
pins: 1 E, 2 B, 3 C

## PNP - MMBT2907A
designator PNP?
TRANS PNP 60V 0.6A SOT23-3
footprint SOT-23 (3-Lead Plastic Small Outline Transistor)
pins: 1 B, 2 C, 3 E

## PNP_BCE
designator Q?, comment A671
P 1W, EBC; Value: TIP42
footprint QTO-220 (TO-220 - 1-2-3)
pins: 1 B, 2 C, 3 E

## PNP_EBC
designator Q?, comment C9015
P 600mW, EBC; Value: C9015
footprint QTO-92 (TO-92)
pins: 1 E, 2 B, 3 C

## PNP_ECB
designator Q?, comment A1013
P 600mW, ECB; Value: A1015
footprint QTO-92 (TO-92)
pins: 1 E, 2 C, 3 B

## PS7142-1A
designator U?, comment PS7142
footprint DIP6/W0.3 (6 PIN, W 300mil, Pin to pin 100mil)
pins: 1 Led+, 2 Led-, 3 NC hidden, 4 D, 5 S, 6 D

## PT2248
designator IC?
Remote Control Tranmitter; Value: PT2248
footprint DIP16/W0.3 (16 PIN, W 300mil, Pin to pin 100mil)
pins: 1 VSS, 2 XT1, 3 XT2, 4 K1, 5 K2, 6 K3, 7 K4, 8 K5, 9 K6, 10 T1, 11 T2, 12 T3, 13 CODE, 14 TEST, 15 TX, 16 VCC

## PT2249
designator IC?
Remote Control Receiver; Value: PT2249
footprint DIP16/W0.3 (16 PIN, W 300mil, Pin to pin 100mil)
pins: 1 VSS, 2 RX-IN, 3 HP1, 4 HP2, 5 HP3, 6 HP4, 7 HP5, 8 SP5, 9 SP4, 10 SP3, 11 SP2, 12 SP1, 13 CODE2, 14 CODE3, 15 OSC, 16 VCC

## PT2262
designator IC?
Remote Control Encoder
footprint DIP18/W0.3 (18 PIN, W 300mil, Pin to pin 100mil)
pins: 1 A1, 2 A2, 3 A3, 4 A4, 5 A5, 6 A6, 7 A7/D5, 8 A8/D4, 9 GND, 10 A9/D3, 11 A10/D2, 12 A11/D1, 13 A12/D0, 14 ~{TE}, 15 OSC2, 16 OSC1, 17 DOUT, 18 VCC

## PT2272
designator IC?
Remote Control Decoder
footprint DIP18/W0.3 (18 PIN, W 300mil, Pin to pin 100mil)
pins: 1 A1, 2 A2, 3 A3, 4 A4, 5 A5, 6 A6, 7 A7, 8 A8, 9 GND, 10 A9/D3, 11 A10/D2, 12 A11/D1, 13 A12/D0, 14 DIN, 15 OSC2, 16 OSC1, 17 VT, 18 VCC

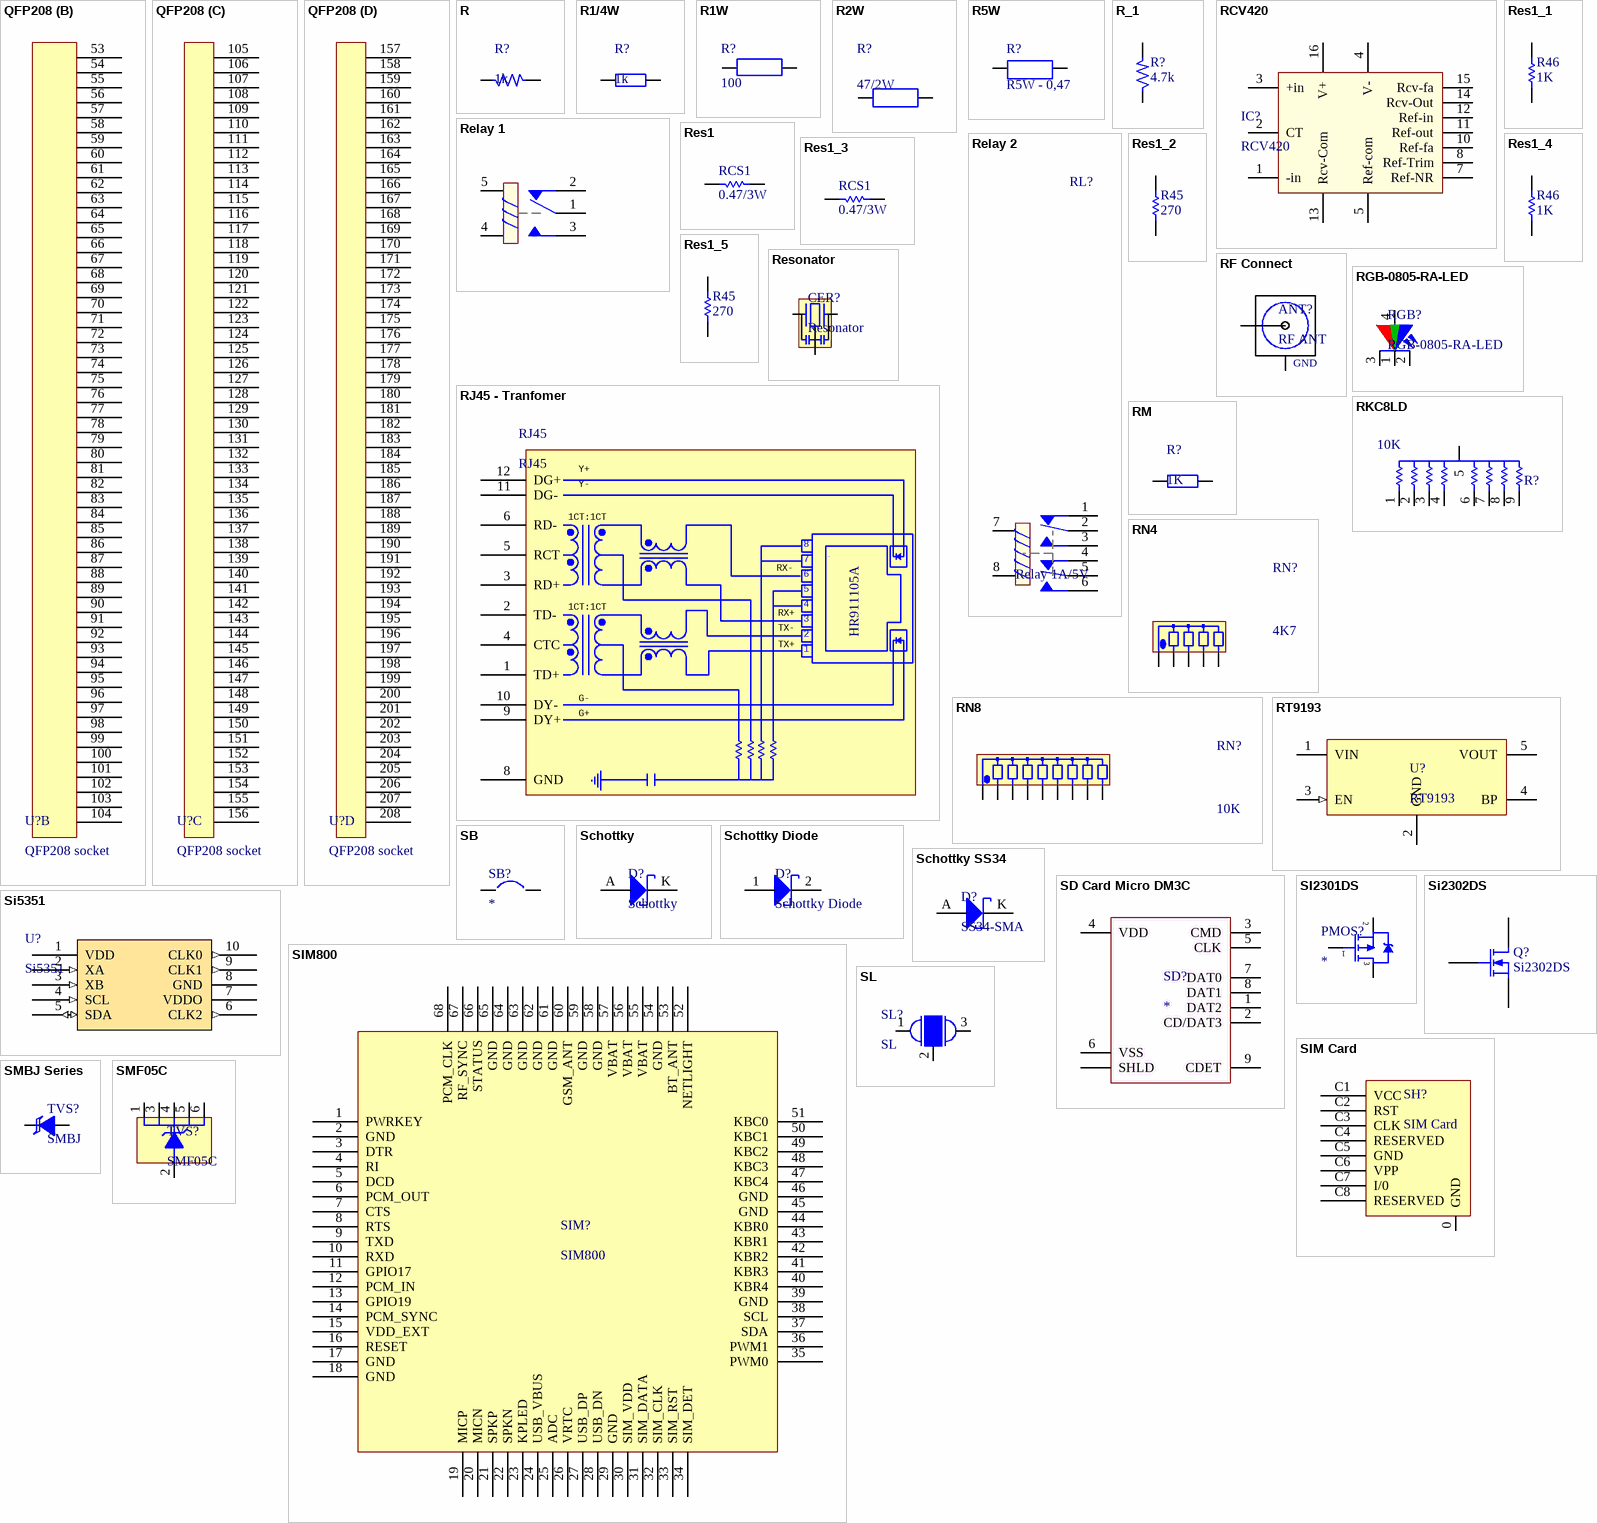
[diagram p21: symbols QFP208 to SMF05C]

## QFP208
designator U?, comment QFP208 socket
footprint QFP208
part A pins: 1, 2, 3, 4, 5, 6, 7, 8, 9, 10, 11, 12, 13, 14, 15, 16, 17, 18, 19, 20, 21, 22, 23, 24, 25, 26, 27, 28, 29, 30, 31, 32, 33, 34, 35, 36, 37, 38, 39, 40, 41, 42, 43, 44, 45, 46, 47, 48, 49, 50, 51, 52
part B pins: 53, 54, 55, 56, 57, 58, 59, 60, 61, 62, 63, 64, 65, 66, 67, 68, 69, 70, 71, 72, 73, 74, 75, 76, 77, 78, 79, 80, 81, 82, 83, 84, 85, 86, 87, 88, 89, 90, 91, 92, 93, 94, 95, 96, 97, 98, 99, 100, 101, 102, 103, 104
part C pins: 105, 106, 107, 108, 109, 110, 111, 112, 113, 114, 115, 116, 117, 118, 119, 120, 121, 122, 123, 124, 125, 126, 127, 128, 129, 130, 131, 132, 133, 134, 135, 136, 137, 138, 139, 140, 141, 142, 143, 144, 145, 146, 147, 148, 149, 150, 151, 152, 153, 154, 155, 156
part D pins: 157, 158, 159, 160, 161, 162, 163, 164, 165, 166, 167, 168, 169, 170, 171, 172, 173, 174, 175, 176, 177, 178, 179, 180, 181, 182, 183, 184, 185, 186, 187, 188, 189, 190, 191, 192, 193, 194, 195, 196, 197, 198, 199, 200, 201, 202, 203, 204, 205, 206, 207, 208

## R
designator R?, comment 1k
Resistor 1/4W; Value: R1/4W - 1K; Manufacture: *; Part Number: *; Unit Price: *
footprint SM-RES-1206
footprint 0603_res
footprint 0402_res
footprint 0805_Res (Chip Resistor, Body 2.0x1.2mm, IPC Medium Density)
footprint R shunt
footprint R shunt 2
footprint 2512_Res
pins: 1, 2

## R1/4W
designator R?, comment 1k
Resistor 1/4W; Value: R1/4W - 1K
footprint R1/4W (R 1/4W, 2 Pin, 350mil)
footprint R1/8W (R 1/8W, 2 pin, 300mil)
footprint R1/2W (R 1/2W, 2 pin, 400mil)
footprint R1/4WD (R 1/4W, 2 Pin, 150mil)
footprint SM-RES-0805
pins: 1, 2

## R1W
designator R?, comment 100
Resistor 1W; Value: R1W - 100
footprint R1W (R 1W, 2 pin, 500mil)
footprint R1WD (R 1W, 2 pin, 500mil)
pins: 1, 2

## R2W
designator R?, comment 47/2W
Resistor 2W; Value: R2W - 47
footprint R2W (R2W, 2 pin, 700mil)
footprint R2WD (R2W, 2 pin, 700mil)
pins: 1, 2

## R5W
designator R?, comment R5W - 0,47
Resistor 5W; Value: R5W - 0,47R
footprint R5W (R5W , 2 pin, 950mil)
footprint R5WD (R5W , 2 pin, 300 x 600 mil)
pins: 1 "R5W", 2 "R5W"

## R_1
designator R?, comment 4.7k
Resistor 1/4W; Value: R1/4W - 1K; Part Number: *; Unit Price: *
footprint SM-RES-1206
footprint 0603_res
footprint 0402_res
pins: 1, 2

## RCV420
designator IC?
Precision 4mA to 20mA  CURRENT LOOP RECEIVER; Designed by: VanDungEvn; Value: RCV420
footprint DIP16/W0.3 (16 PIN, W 300mil, Pin to pin 100mil)
pins: 1 -in, 2 CT, 3 +in, 4 V-, 5 Ref-com, 7 Ref-NR, 8 Ref-Trim, 10 Ref-fa, 11 Ref-out, 12 Ref-in, 13 Rcv-Com, 14 Rcv-Out, 15 Rcv-fa, 16 V+

## Relay 1
designator RL?, comment Relay 10A/12V
Relay SPDT,10A - 12VDC 5 Pin; Value: Relay SPDT, 10A, 12V
footprint RL_SPDT_10A (Relay SPDT, 5 pin, 10A,W 650mil, L 800mil, H 800mil)
footprint RL_T78
footprint RL_GH-1C-12L
pins: 1, 2, 3, 4, 5

## Relay 2
designator RL?, comment Relay 1A/5V
Relay DPDT; Discription: Relay DPDT 5V, 12V - 1A - 5A; Value: Relay - 5V - 1A
footprint RL_DPDT_5A (Reley DPDT, 8 pin, 5A, W500mil, L1100mil,H 950mil)
footprint RL_DPDT_1A (Reley DPDT, 8 pin, 1A, W400mil, L800mil,H 300mil)
pins: 1, 2, 3, 4, 5, 6, 7, 8

## Res1
designator RCS1  value 0.47/3W  (hidden comment: Res1)
Resistor; Manufacturer: Generic Components; Class: Passive; Published: 08/06/2000; Publisher: Altium Hobart Technology Centre; SubClass: Resistor
footprint R1WD (R 1W, 2 pin, 500mil)
pins: 1, 2

## Res1_1
designator R46, comment value 1K  (hidden comment: Res1)
Resistor; Manufacturer: Generic Components; Class: Passive; Published: 08/06/2000; Publisher: Altium Hobart Technology Centre; SubClass: Resistor
footprint TRO_NHO
simulation model RESISTOR (Resistor)
signal-integrity model Res1
footprint R1/4W
pins: 1, 2

## Res1_2
designator R45, comment value 270  (hidden comment: Res1)
Resistor; Manufacturer: Generic Components; Class: Passive; Published: 08/06/2000; Publisher: Altium Hobart Technology Centre; SubClass: Resistor
footprint TRO_NHO
simulation model RESISTOR (Resistor)
signal-integrity model Res1
footprint R1/4W1 (R 1/4W, 2 Pin, 150mil)
pins: 1, 2

## Res1_3
designator RCS1, comment value 0.47/3W  (hidden comment: Res1)
Resistor; Manufacturer: Generic Components; Class: Passive; Published: 08/06/2000; Publisher: Altium Hobart Technology Centre; SubClass: Resistor
footprint R1WD (R 1W, 2 pin, 500mil)
pins: 1, 2

## Res1_4
designator R46, comment value 1K  (hidden comment: Res1)
Resistor; Manufacturer: Generic Components; Class: Passive; Published: 08/06/2000; Publisher: Altium Hobart Technology Centre; SubClass: Resistor
footprint TRO_NHO
simulation model RESISTOR (Resistor)
signal-integrity model Res1
footprint R1/4W
pins: 1, 2

## Res1_5
designator R45, comment value 270  (hidden comment: Res1)
Resistor; Manufacturer: Generic Components; Class: Passive; Published: 08/06/2000; Publisher: Altium Hobart Technology Centre; SubClass: Resistor
footprint TRO_NHO
simulation model RESISTOR (Resistor)
signal-integrity model Res1
footprint R1/4W1 (R 1/4W, 2 Pin, 150mil)
pins: 1, 2

## Resonator
designator CER?
CER RESONATOR
footprint CSTCE_V (CER RESONATOR SMD)
pins: 1, 2, 3

## RF Connect
designator ANT?, comment RF ANT
footprint IPEX Connect
footprint ANT_142_0711_821 (SMA 50 Ohm  - End Launch Jack Receptacle -  Round Contact)
pins: 1 GND, 2

## RGB-0805-RA-LED
designator RGB?
RGB-LED
footprint RGB-0805-RA-LED
pins: 1, 2, 3, 4

## RJ45 - Tranfomer
designator RJ45, comment RJ45
footprint RJ45 Tranfomer
pins: 1 TD+, 2 TD-, 3 RD+, 4 CTC, 5 RCT, 6 RD-, 8 GND (power), 9 DY+, 10 DY-, 11 DG-, 12 DG+
text: Y+; Y-; 1CT:1CT; 7; RX-; RX+; TX-; HR911105A; TX+; G-; G+

## RKC8LD
designator R?, comment 10K
Resistor Pack 4x2; Value: 10K
footprint RN8 (R SIP8, 9 Pin)
pins: 1, 2, 3, 4, 5, 6, 7, 8, 9

## RM
designator R?, comment 1K
Resistor SMD; Value: 1K
footprint SM-1206 (Compoment SMD 120x60mil)
footprint SM-0805 (Compoment SMD 80x50mil)
pins: 1, 2

## RN4
designator RN?, comment 4K7
Resistor 4 (thanh); Value: Tro thanh 4K7
footprint RN4 (R SIP4, 5 Pin)
pins: 1, 2, 3, 4, 5

## RN8
designator RN?, comment 10K
Resistor 8 (Thanh); Value: Tro thanh 10K
footprint RN8 (R SIP8, 9 Pin)
pins: 1, 2, 3, 4, 5, 6, 7, 8, 9

## RT9193
designator U?
300mA, Ultra-Low Noise, Ultra-Fast CMOS LDO Regulator; Manufacture: Richtek; Part Number: RT9193-33GB; Unit Price: 5000
footprint SOT-23-5
pins: 1 VIN, 2 GND, 3 EN (in), 4 BP, 5 VOUT

## SB
designator SB?
footprint SB0603
pins: 1, 2

## Schottky
designator D?
MBRS140T3G DIODE SCHOTTKY 40V 1A SMB; Manufacture: *; Unit Price: *; Part Number: *
footprint DO-214AA
footprint SOD-123
pins: A, K

## Schottky Diode
designator D?
Diode Schottky; Manufacture: *; Unit Price: *; Part Number: *
footprint SOD-123
footprint DO-201 (Diode, Axial; Body 9.5 x 5.6 mm (LxDia. max), Lead Dia. 1.32 mm (max))
footprint DO-214AA - 2
footprint DO-214AB (SMC)
pins: 1 A, 2 K

## Schottky SS34
designator D?, comment SS34-SMA
DIODE SCHOTTKY 3A 40V SMA; Unit Price: *; Manufacture: *; Part Number: *
footprint DO-214AA
pins: A, K

## SD Card Micro DM3C
designator SD?
footprint MICROSD1
pins: 1 DAT2, 2 CD/DAT3, 3 CMD, 4 VDD, 5 CLK, 6 VSS, 7 DAT0, 8 DAT1, 9 CDET, Shield SHLD

## SI2301DS
designator PMOS?
MOSFET P-CH 20V 2A SSOT3
footprint SOT23 (SOT 23 _ 1-3-2)
pins: 1 G, 2 S, 3 D

## Si2302DS
designator Q?
N-Channel MOSFET; Published: 8-Jun-2000; LatestRevisionDate: 17-Jul-2002; LatestRevisionNote: Re-released for DXP Platform.; PackageVersion: 1995/1996; PackageReference: E3; Publisher: Altium Limited; PackageDescription: TO, Flat Index; 3 In-Line, Axial Leads; Body Dia. 4.6mm; Lead Dia. 0.5 mm (max)
footprint SOT23 (SOT 23 _ 1-3-2)
pins: 1 G, 2 S, 3 D

## Si5351
designator U?
I2C-PROGRAMMABLE ANY-FREQUENCY CMOS CLOCK
footprint MSOP10_L
pins: 1 VDD (power), 2 XA (in), 3 XB (in), 4 SCL (in), 5 SDA (io), 6 CLK2 (out), 7 VDDO (power), 8 GND, 9 CLK1 (out), 10 CLK0 (out)

## SIM800
designator SIM?
quad-band GSM/GPRS module
footprint SIM800
pins: 1 PWRKEY, 2 GND, 3 DTR, 4 RI, 5 DCD, 6 PCM_OUT, 7 CTS, 8 RTS, 9 TXD, 10 RXD, 11 GPIO17, 12 PCM_IN, 13 GPIO19, 14 PCM_SYNC, 15 VDD_EXT, 16 RESET, 17 GND, 18 GND, 19 MICP, 20 MICN, 21 SPKP, 22 SPKN, 23 KPLED, 24 USB_VBUS, 25 ADC, 26 VRTC, 27 USB_DP, 28 USB_DN, 29 GND, 30 SIM_VDD, 31 SIM_DATA, 32 SIM_CLK, 33 SIM_RST, 34 SIM_DET, 35 PWM0, 36 PWM1, 37 SDA, 38 SCL, 39 GND, 40 KBR4, 41 KBR3, 42 KBR2, 43 KBR1, 44 KBR0, 45 GND, 46 GND, 47 KBC4, 48 KBC3, 49 KBC2, 50 KBC1, 51 KBC0, 52 NETLIGHT, 53 BT_ANT, 54 GND, 55 VBAT, 56 VBAT, 57 VBAT, 58 GND, 59 GND, 60 GSM_ANT, 61 GND, 62 GND, 63 GND, 64 GND, 65 GND, 66 STATUS, 67 RF_SYNC, 68 PCM_CLK

## SIM Card
designator SH?
Manufacture: *; Unit Price: *; Part Number: *
footprint Micro Sim
footprint SIM HOLDER 912283001
pins: 0 GND, C1 VCC, C2 RST, C3 CLK, C4 RESERVED, C5 GND, C6 VPP, C7 I/0, C8 RESERVED

## SL
designator SL?
footprint SL_0603
footprint SL_0805
footprint SL_WIRE
pins: 1, 2, 3

## SMBJ Series
designator TVS?, comment SMBJ
600W SURFACE MOUNT TRANSIENT VOLTAGE SUPPRESSOR; Manufacture: Diodes; Part Number: *; Unit Price: *; Value: *
footprint SMB (DO-214-AA/SMB; 2 C-Bend Leads; Body 5.3 x 3.6 mm, inc. leads (LxW))
footprint DO-214AA
pins: A, K

## SMF05C
designator TVS?
TVS Diode array; Manufacture: ON
footprint SC70-6
pins: 1 K1, 2 CA, 3 K2, 4 K3, 5 K4, 6 K5

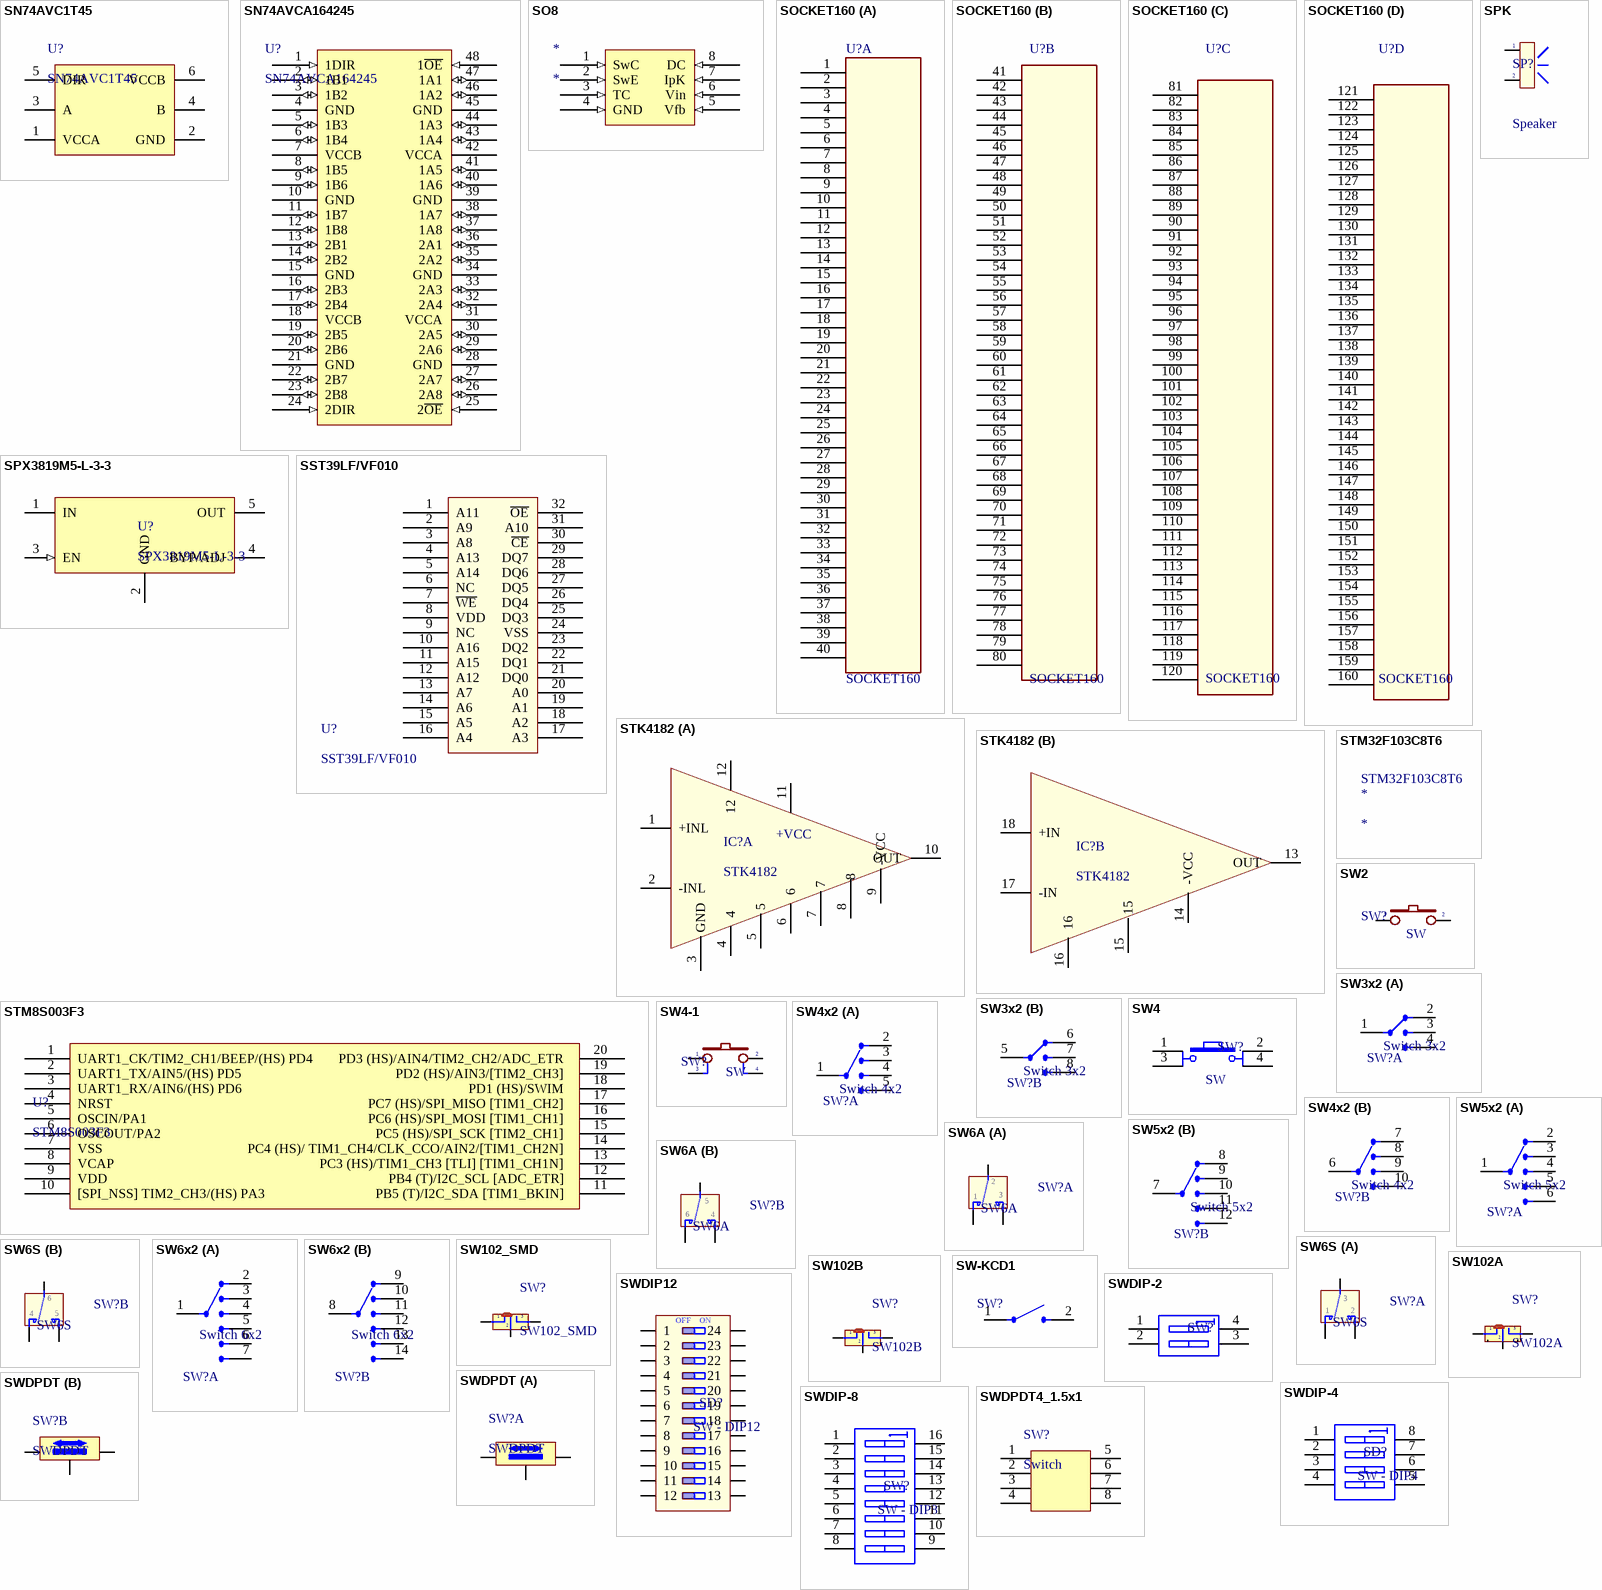
[diagram p22: symbols SN74AVC1T45 to SWDPDT4_1.5x1]

## SN74AVC1T45
designator U?
footprint SOT23-6_N (SOT23, 6-Leads, Body 2.9x1.6mm, Pitch 0.95mm, Lead Span 2.7mm, IPC Medium Density)
pins: 1 VCCA, 2 GND, 3 A, 4 B, 5 DIR, 6 VCCB

## SN74AVCA164245
designator U?
16-BIT DUAL-SUPPLY BUS TRANSCEIVER
footprint TSSOP48
pins: 1 1DIR (in), 2 1B1 (io), 3 1B2 (io), 4 GND (power), 5 1B3 (io), 6 1B4 (io), 7 VCCB (power), 8 1B5 (io), 9 1B6 (io), 10 GND (power), 11 1B7 (io), 12 1B8 (io), 13 2B1 (io), 14 2B2 (io), 15 GND (power), 16 2B3 (io), 17 2B4 (io), 18 VCCB (power), 19 2B5 (io), 20 2B6 (io), 21 GND (power), 22 2B7 (io), 23 2B8 (io), 24 2DIR (in), 25 2~{OE} (in), 26 2A8 (io), 27 2A7 (io), 28 GND (power), 29 2A6 (io), 30 2A5 (io), 31 VCCA (power), 32 2A4 (io), 33 2A3 (io), 34 GND (power), 35 2A2 (io), 36 2A1 (io), 37 1A8 (io), 38 1A7 (io), 39 GND (power), 40 1A6 (io), 41 1A5 (io), 42 VCCA (power), 43 1A4 (io), 44 1A3 (io), 45 GND (power), 46 1A2 (io), 47 1A1 (io), 48 1~{OE} (in)

## SO8
designator *
footprint SOP8
pins: 1 SwC (in), 2 SwE (in), 3 TC (in), 4 GND (in), 5 Vfb (in), 6 Vin (in), 7 IpK (in), 8 DC (in)

## SOCKET160
designator U?
footprint SOCKET160_REV5
part A pins: 1 S1, 2 S2, 3 S3, 4 S4, 5 S5, 6 S6, 7 S7, 8 S8, 9 S9, 10 S10, 11 S11, 12 S12, 13 S13, 14 S14, 15 S15, 16 S16, 17 S17, 18 S18, 19 S19, 20 S20, 21 S21, 22 S22, 23 S23, 24 S24, 25 S25, 26 S26, 27 S27, 28 S28, 29 S29, 30 S30, 31 S31, 32 S32, 33 S33, 34 S34, 35 S35, 36 S36, 37 S37, 38 S38, 39 S39, 40 S40
part B pins: 41 S1, 42 S2, 43 S3, 44 S4, 45 S5, 46 S6, 47 S7, 48 S8, 49 S9, 50 S10, 51 S11, 52 S12, 53 S13, 54 S14, 55 S15, 56 S16, 57 S17, 58 S18, 59 S19, 60 S20, 61 S21, 62 S22, 63 S23, 64 S24, 65 S25, 66 S26, 67 S27, 68 S28, 69 S29, 70 S30, 71 S31, 72 S32, 73 S33, 74 S34, 75 S35, 76 S36, 77 S37, 78 S38, 79 S39, 80 S40
part C pins: 81 S1, 82 S2, 83 S3, 84 S4, 85 S5, 86 S6, 87 S7, 88 S8, 89 S9, 90 S10, 91 S11, 92 S12, 93 S13, 94 S14, 95 S15, 96 S16, 97 S17, 98 S18, 99 S19, 100 S20, 101 S21, 102 S22, 103 S23, 104 S24, 105 S25, 106 S26, 107 S27, 108 S28, 109 S29, 110 S30, 111 S31, 112 S32, 113 S33, 114 S34, 115 S35, 116 S36, 117 S37, 118 S38, 119 S39, 120 S40
part D pins: 121 S1, 122 S2, 123 S3, 124 S4, 125 S5, 126 S6, 127 S7, 128 S8, 129 S9, 130 S10, 131 S11, 132 S12, 133 S13, 134 S14, 135 S15, 136 S16, 137 S17, 138 S18, 139 S19, 140 S20, 141 S21, 142 S22, 143 S23, 144 S24, 145 S25, 146 S26, 147 S27, 148 S28, 149 S29, 150 S30, 151 S31, 152 S32, 153 S33, 154 S34, 155 S35, 156 S36, 157 S37, 158 S38, 159 S39, 160 S40

## SPK
designator SP?, comment Speaker
Speaker Chip; Value: Speaker Chip
footprint SPK (Speaker Chip)
footprint SP1 (Speaker Telphone on Broad)
pins: 1, 2

## SPX3819M5-L-3-3
designator U?
500mA Low-Noise LDO Voltage Regulator
footprint SOT-23-5
pins: 1 IN, 2 GND, 3 EN (in), 4 BYP/ADJ, 5 OUT

## SST39LF/VF010
designator U?
IC FLASH 1M PARALLEL 32TSOP
footprint TSOP32-HT
pins: 1 A11, 2 A9, 3 A8, 4 A13, 5 A14, 6 NC, 7 ~{WE}, 8 VDD, 9 NC, 10 A16, 11 A15, 12 A12, 13 A7, 14 A6, 15 A5, 16 A4, 17 A3, 18 A2, 19 A1, 20 A0, 21 DQ0, 22 DQ1, 23 DQ2, 24 VSS, 25 DQ3, 26 DQ4, 27 DQ5, 28 DQ6, 29 DQ7, 30 ~{CE}, 31 A10, 32 ~{OE}

## STK4182
designator IC?
AF Power Amplifier 2x10W
footprint STK4182 (Pin to pin 100mil, 18 pin)
part A pins: 1 +INL, 2 -INL, 3 GND, 4, 5, 6, 7, 8, 9 -VCC, 10 OUT, 11 +VCC, 12
part B pins: 13 OUT, 14 -VCC, 15, 16, 17 -IN, 18 +IN

## STM8S003F3
designator U?
footprint SSOP4-28-DIP
footprint TSSOP20 (20-lead thin shrink small outline, 6.5 x 4.4 mm, 0.65 mm pitch)
footprint TSSOP20_20DIP
pins: 1 UART1_CK/TIM2_CH1/BEEP/(HS) PD4  , 2 UART1_TX/AIN5/(HS) PD5  , 3 UART1_RX/AIN6/(HS) PD6  , 4 NRST  , 5 OSCIN/PA1  , 6 OSCOUT/PA2  , 7 VSS  , 8 VCAP  , 9 VDD  , 10 [SPI_NSS] TIM2_CH3/(HS) PA3  , 11 PB5 (T)/I2C_SDA [TIM1_BKIN]  , 12 PB4 (T)/I2C_SCL [ADC_ETR]  , 13 PC3 (HS)/TIM1_CH3 [TLI] [TIM1_CH1N]  , 14 PC4 (HS)/ TIM1_CH4/CLK_CCO/AIN2/[TIM1_CH2N]  , 15 PC5 (HS)/SPI_SCK [TIM2_CH1]  , 16 PC6 (HS)/SPI_MOSI [TIM1_CH1]  , 17 PC7 (HS)/SPI_MISO [TIM1_CH2]  , 18 PD1 (HS)/SWIM  , 19 PD2 (HS)/AIN3/[TIM2_CH3]  , 20 PD3 (HS)/AIN4/TIM2_CH2/ADC_ETR  

## STM32F103C8T6
designator *  Supplier Part Number 1: STM32F103C8T6
ARM microcontroller; Flash:64kB; 72MHz; SRAM:20kB; LQFP48; Manufacturer: ST MICROELECTRONICS; Unit: pcs; SuppliedAmount: 0; MinAmount: 1; Flash memory capacity: 64kB; Number of inputs/outputs: 37; SRAM memory capacity: 20kB; Supply voltage: 2...3.6V DC; Interface: CAN; Number of 16bit timers: 4; Kind of architecture: Cortex M3; Supplier 1: TME; Manufacturer Part Number: STM32F103C8T6; Category: ST Microcontrollers; Stock 1: 5; Pricing 1: 1=4.4, 3=4.2, 10=3.83, 50=3.26, 250=2.75 (USD); Weight: 3.29; Multiples: 1; Price Type: NET; Integrated circuit type: ARM microcontroller; Clock frequency: 72MHz; Mounting: SMD; Case: LQFP48; ComponentLink1URL: http://www.tme.eu/en/details/stm32f103c8t6/st-microcontrollers/st-microelectronics/; ComponentLink1Description: http://www.tme.eu/en/details/stm32f103c8t6/st-microcontrollers/st-microelectronics/

## SW2
designator SW?, comment SW
Switch button 2 pin; Value: SW chip 2 pin
footprint SW2 (SW button 2pin, 250x 250 mil)
footprint Tact Switch TS6X3.6
footprint SW_d
footprint SW_DS-316
pins: 1, 2

## SW3x2
designator SW?, comment Switch 3x2
Value: Switch 4x2
footprint SW3X2 (Switch 3x2 - pin to pin 80)
part A pins: 1 Com, 2 I/O1, 3 I/O2, 4 I/O3
part B pins: 5 I/O10, 6 I/O9, 7 Com2, 8 I/O6

## SW4
designator SW?, comment SW
Switch button 4 pin; Value: Button chip 4 pin
footprint SW4 (SW button 4pin, 250 x250 mil)
footprint SW4B (SW button 4pin, 450 x 450 mil)
footprint 4-PIN SMD BUTTON - TS-1189E
footprint SW4 - SMD (SW button 4pin, 250 x250 mil)
pins: 1, 2, 3, 4

## SW4-1
designator SW?, comment SW
Switch button 4 pin; Value: SW chip 4 pin
footprint SW4 (SW button 4pin, 250 x250 mil)
footprint SW4B (SW button 4pin, 450 x 450 mil)
footprint SW4 SMD NoCap (Switch 3.7X3.7X0.35 SMD)
pins: 1, 2, 3, 4

## SW4x2
designator SW?, comment Switch 4x2
Value: Switch 4x2
footprint SW4X2 (Switch 4x2)
part A pins: 1 Com, 2 I/O1, 3 I/O2, 4 I/O3, 5 I/O4
part B pins: 6 I/O9, 7 Com2, 8 I/O6, 9 I/O7, 10 I/O8

## SW5x2
designator SW?, comment Switch 5x2
Value: Switch 5x2
footprint SW5X2 (Switch 5x2)
part A pins: 1 Com, 2 I/O1, 3 I/O2, 4 I/O3, 5 I/O4, 6 I/O5
part B pins: 7 Com2, 8 I/O6, 9 I/O7, 10 I/O8, 11 I/O9, 12 I/O10

## SW6A
designator SW?
SW-DTDP - 6 Pin; Value: SW6
footprint SW6 (SW DTDP - 6Pin 260x300x300 mil)
part A pins: 1, 2, 3
part B pins: 4, 5, 6

## SW6S
designator SW?
SW-DTDP - 6 Pin; Value: SW6
footprint SW6 (SW DTDP - 6Pin 260x300x300 mil)
part A pins: 1, 2, 3
part B pins: 4, 5, 6

## SW6x2
designator SW?, comment Switch 6x2
Value: Switch 6x2
footprint SW6X2 (Switch 6x2)
part A pins: 1 Com, 2 I/O1, 3 I/O2, 4 I/O3, 5 I/O4, 6 I/O5, 7 I/O6
part B pins: 8 I/O6, 9 I/O7, 10 I/O8, 11 I/O9, 12 I/O10, 13 I/O11, 14 I/O12

## SW102_SMD
designator SW?
Switch 102 on Broad; Value: Switch 102 On Board
footprint SW102 (Switch 102 On Board nho)
footprint SW102T (Switch 102 On Board To)
footprint SMD SWITCH - MSK-12C02
pins: 1, 2, 3

## SW102A
designator SW?
Switch 102 on Broad; Value: Switch 102 On Board
footprint SW102 (Switch 102 On Board nho)
footprint SW102T (Switch 102 On Board To)
pins: 1, 2, 3, 4, 5

## SW102B
designator SW?
Switch 102 on Broad; Value: Switch 102 On Board
footprint SW-GAT
footprint SW102T (Switch 102 On Board To)
pins: 1, 2, 3

## SW-KCD1
designator SW?, comment Switch ON-OFF-ON 2Pin 6A  (value not drawn)
footprint KCD1-A (Switch ON/OFF 3A/250VAC)
pins: 1 OFF, 2 ON

## SWDIP12
designator SD?, comment SW - DIP12
DIP Switch, 12 Position, SPST; Value: SW - DIP12
footprint DIP24/W0.3 (DIP24/W.300, Pin to pin 100mil)
pins: 1, 2, 3, 4, 5, 6, 7, 8, 9, 10, 11, 12, 13, 14, 15, 16, 17, 18, 19, 20, 21, 22, 23, 24
text: OFF; ON

## SWDIP-2
designator SW?, comment SW - DIP2  (value not drawn)
DIP Switch, 2 Position, SPST; Value: SW - DIP2
footprint SWDIP-2 (4 PIN, W 400mil , L 450mil,Pin to pin 100mil)
pins: 1 A1, 2 A2, 3 A3, 4 A4

## SWDIP-4
designator SD?, comment SW - DIP4
DIP Switch, 4 Position, SPST; Value: SW - DIP4
footprint DIP8/W0.3 KEY (8 PIN, W 400mil , L 450mil, Pin to pin 100mil)
pins: 1 A1, 2 A2, 3 A3, 4 A4, 5 B4, 6 B3, 7 B2, 8 B1

## SWDIP-8
designator SW?, comment SW - DIP8
DIP Switch, 8 Position, SPST; Value: SW - DIP8
simulation model dpsw8 (Spice Subcircuit)
footprint DIP_SW_8WAY_SMD_254 (DIP Switch; 16 Leads)
footprint DIP16/W0.3K (16 PIN, W 300mil, Pin to pin 100mil For Switch)
pins: 1 A1, 2 A2, 3 A3, 4 A4, 5 A5, 6 A6, 7 A7, 8 A8, 9 B8, 10 B7, 11 B6, 12 B5, 13 B4, 14 B3, 15 B2, 16 B1

## SWDPDT
designator SW?
Switch SPDT; Creat by: VanDungEvn@Gmail.com
footprint SWDPDT_1.5x1 (Switch DPDT, Pin to Pin 150mil, Row to Row 100mil)
footprint SWDPDT_1.5x2 (Switch DPDT, Pin to Pin 150mil, Row to Row 200mil)
part A pins: 1, 2, 3
part B pins: 4, 5, 6

## SWDPDT4_1.5x1
designator SW?, comment Switch
Switch 1-3 x2
footprint SWDPDT4_1.5x1 (Switch 3 DPDT, Pin to Pin 150mil, Row to Row 100mil)
pins: 1, 2, 3, 4, 5, 6, 7, 8

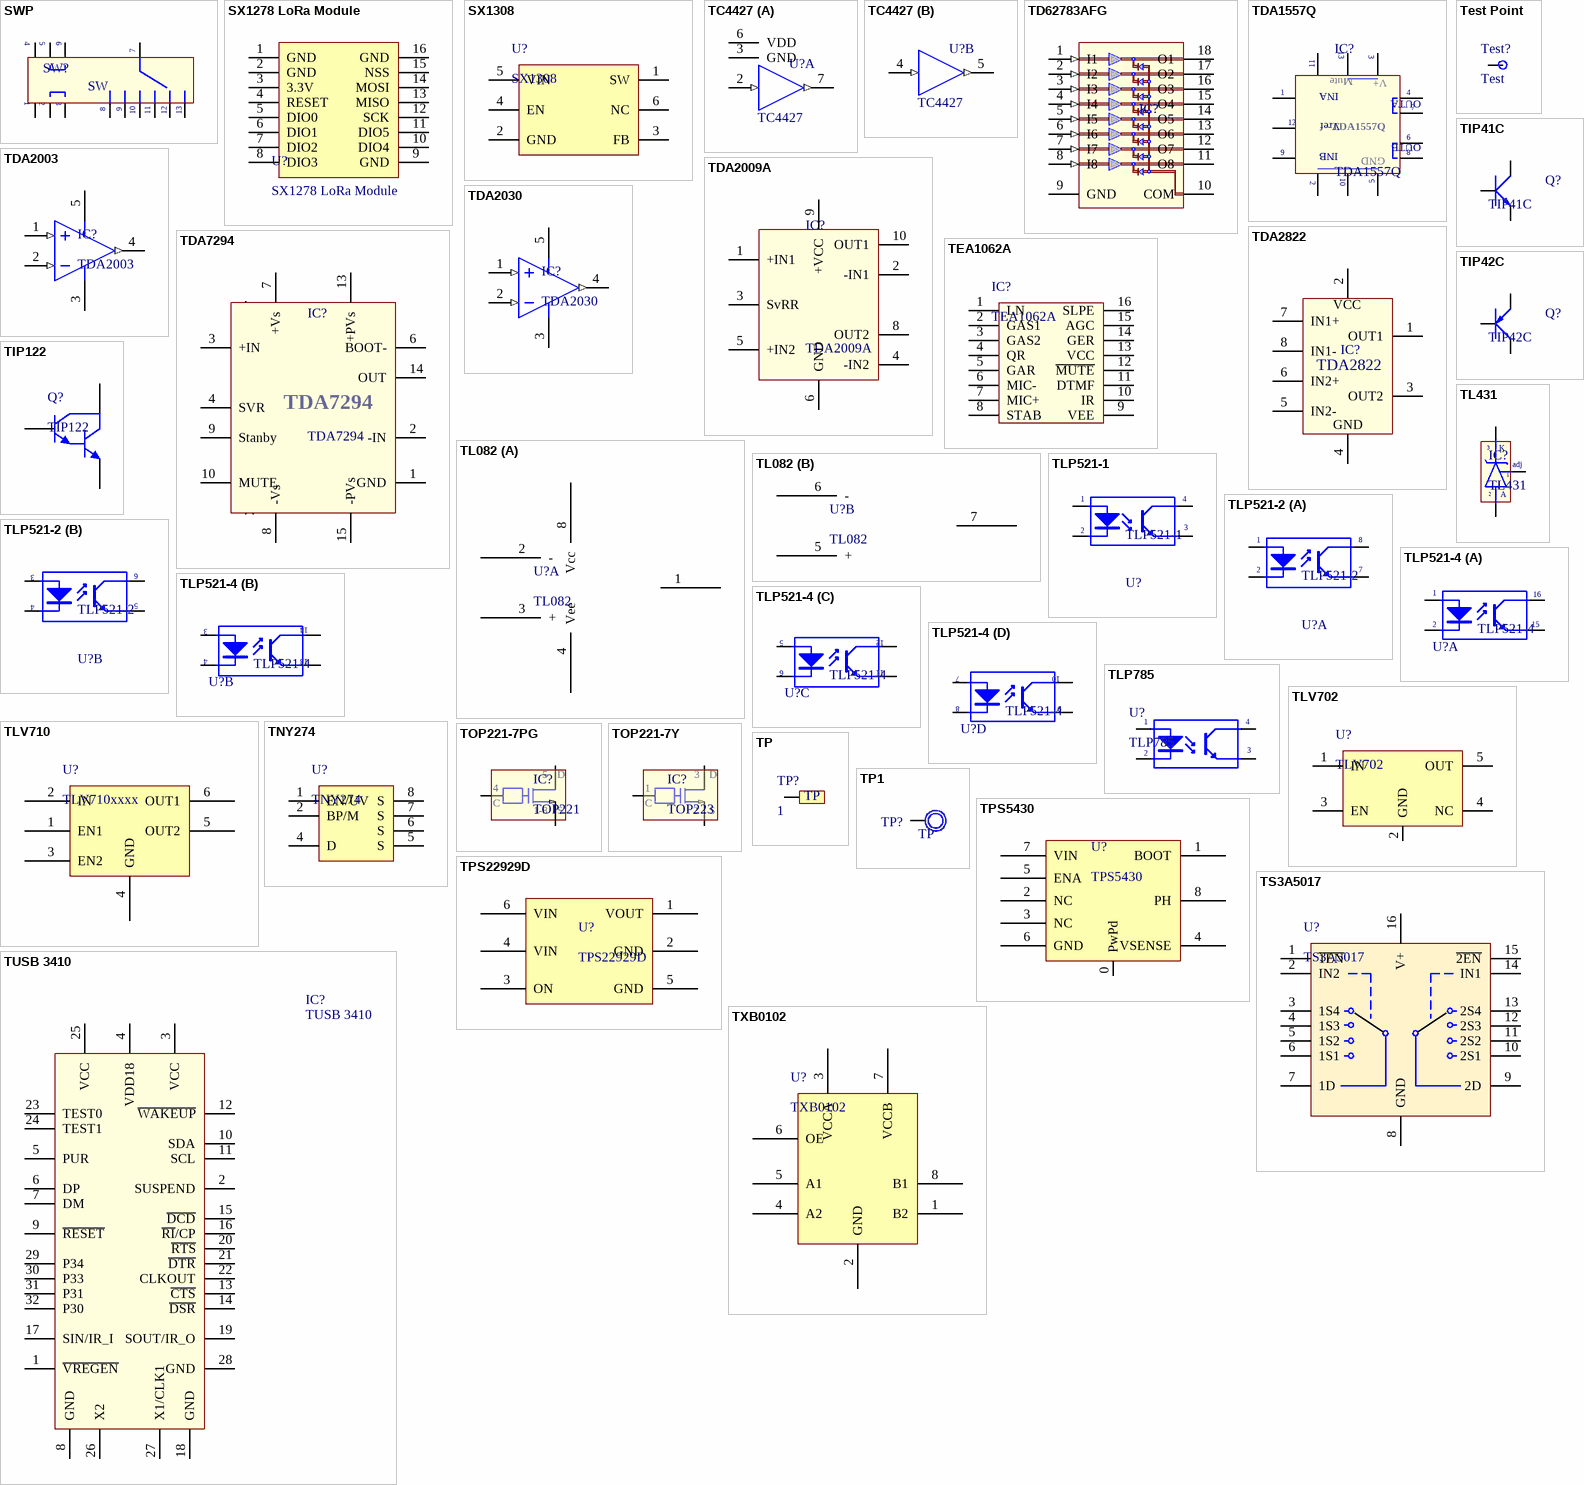
[diagram p23: symbols SWP to TXB0102]

## SWP
designator SW?, comment SW
Switch Power; Value: SW Power
footprint SWP (SW Power)
pins: 1, 2, 3, 4, 5, 6, 7, 8, 9, 10, 11, 12, 13

## SX1278 LoRa Module
designator U?
footprint SX1278 LoRa Module
pins: 1 GND, 2 GND, 3 3.3V, 4 RESET, 5 DIO0, 6 DIO1, 7 DIO2, 8 DIO3, 9 GND, 10 DIO4, 11 DIO5, 12 SCK, 13 MISO, 14 MOSI, 15 NSS, 16 GND

## SX1308
designator U?
High Efficiency 1.2MHz 2A Step Up Converter; SX: Manufacture
footprint SOT23-6_N (SOT23, 6-Leads, Body 2.9x1.6mm, Pitch 0.95mm, Lead Span 2.7mm, IPC Medium Density)
pins: 1 SW, 2 GND, 3 FB, 4 EN, 5 VIN, 6 NC

## TC4427
designator U?
footprint DIP 8
part A pins: 1 NC (power) hidden, 2 A (in), 3 GND (power), 6 VDD (power), 7 Y (out), 8 NC (power) hidden
part B pins: 4 A (in), 5 Y (out)

## TD62783AFG
designator IC?  (value not drawn)
High-Voltage, High-Current Darlington Array; Value: TD62783AFG
footprint DIP18/W0.3 (18 PIN, W 300mil, Pin to pin 100mil)
pins: 1 I1 (in), 2 I2 (in), 3 I3 (in), 4 I4 (in), 5 I5 (in), 6 I6 (in), 7 I7 (in), 8 I8 (in), 9 GND (power), 10 COM, 11 O8 (oc), 12 O7 (oc), 13 O6 (oc), 14 O5 (oc), 15 O4 (oc), 16 O3 (oc), 17 O2 (oc), 18 O1 (oc)

## TDA1557Q
designator IC?
2 x 22 W BTL stereo car radio power amplifier with speaker protection; Value: TDA1557Q
footprint DIP13/S1 (13 Pin so le hai hang cach nhau 200mil., Pin to pin 100mil)
pins: 1 IN1, 2 GND, 3 V+, 4 OUT1A, 5 GND, 6 OUT1B, 7 OUT2A, 8 OUT2B, 9 IN2, 10 GND, 11 Mute, 12 Vref, 13 V+
text: INA; OUTA; OUTB; INB

## TDA2003
designator IC?
10W CAR RADIO AUDIO AMPLIFIER; Value: TDA2003
footprint DIP5SL1
pins: 1 IN+ (in), 2 IN- (in), 3 V- (power), 4 OUT (out), 5 V+ (power)

## TDA2009A
designator IC?
2 x 10 W BTL stereo car radio power amplifier with speaker protection; Value: TDA1557Q
footprint DIP11/S1 (11 Pin so le hai hang cach nhau 200mil., Pin to pin 100mil)
pins: 1 +IN1, 2 -IN1, 3 SvRR, 4 -IN2, 5 +IN2, 6 GND, 8 OUT2, 9 +VCC, 10 OUT1

## TDA2030
designator IC?
14W Hi-Fi AUDIO AMPLIFIER; Value: TDA2030
footprint DIP5SL1
pins: 1 IN+ (in), 2 IN- (in), 3 V- (power), 4 OUT (out), 5 V+ (power)

## TDA2822
designator IC?  (value not drawn)
Dual Low Voltage Power Amplifire
footprint DIP8/W0.3 (8 PIN, W 300mil, Pin to pin 100mil)
pins: 1 OUT1, 2 VCC, 3 OUT2, 4 GND "VCC", 5 IN2- "VCC", 6 IN2+ "VCC", 7 IN1+ "VCC", 8 IN1- "VCC"

## TDA7294
designator IC?
100V - 100W DMOS AUDIO AMPLIFIER WITH MUTE/ST-BY; Value: TDA1557Q
footprint DIP15SL2 (TO, Thru-Hole, Vertical, Heatsink Mounted; 15 Bent Staggered Leads; Pitch 1.27 mm)
pins: 1 GND, 2 -IN, 3 +IN, 4 SVR, 5 NC, 6 BOOT-, 7 +Vs, 8 -Vs, 9 Stanby, 10 MUTE, 11 NC, 12 NC, 13 +PVs, 14 OUT, 15 -PVs

## TEA1062A
designator IC?
Low voltage transmission circuits with dialler interface; Creat by: VanDungEvn@Gmail.com
footprint DIP16/W0.3 (16 PIN, W 300mil, Pin to pin 100mil)
pins: 1 LN, 2 GAS1, 3 GAS2, 4 QR, 5 GAR, 6 MIC-, 7 MIC+, 8 STAB, 9 VEE, 10 IR, 11 DTMF, 12 ~{MUTE}, 13 VCC, 14 GER, 15 AGC, 16 SLPE

## Test Point
designator Test?, comment Test
footprint Tespoint
footprint Tespoint SMD
pins: 1

## TIP41C
designator Q?
NPN 2W, BCE; Value: TIP41C
footprint QTO-220 (TO-220 - 1-2-3)
pins: 1 B, 2 C, 3 E

## TIP42C
designator Q?
PNP 2W, BCE; Value: TIP42C
footprint QTO-220 (TO-220 - 1-2-3)
pins: 1 B, 2 C, 3 E

## TIP122
designator Q?
Darlington Silicon Power NPN Transistor, 8 Amp, 100 Volts and 65 Watts
footprint QTO-220 (TO-220 - 1-2-3)
pins: 1 B, 2 C, 3 E

## TL082
designator U?
Wide Bandwidth Dual JFET Input Operational Amplifier
footprint DIP8/W0.3 (8 PIN, W 300mil, Pin to pin 100mil)
part A pins: 1, 2 -, 3 +, 4 Vee (power), 8 Vcc (power)
part B pins: 5 +, 6 -, 7

## TL431
designator IC?
Programmable Shunt Regulator; Value: TL431
footprint qto-92 (TO-92)
pins: 1 adj, 2 A, 3 K

## TLP521-1
designator U?
Single Opto; Value: TLP5211
footprint DIP4/W0.3 (4 PIN, W 300mil, Pin to pin 100mil)
pins: 1 A "Anode", 2 K "Cathode", 3 E "Emitter", 4 C "Collector"

## TLP521-2
designator U?
Dual Opto; Value: TLP521-2
footprint DIP8/W0.3 (8 PIN, W 300mil)
part A pins: 1 A "Anode", 2 K "Cathode", 7 E "Emitter", 8 C "Collector"
part B pins: 3 A "Anode", 4 K "Cathode", 5 E "Emitter", 6 C "Collector"

## TLP521-4
designator U?
Four Opto; Value: TLP521-4
footprint DIP16/W0.3 (16 PIN, W 300mil, Pin to pin 100mil)
part A pins: 1 A "Anode", 2 K "Cathode", 15 E "Emitter", 16 C "Collector"
part B pins: 3 A "Anode", 4 K "Cathode", 13 E "Emitter", 14 C "Collector"
part C pins: 5 A "Anode", 6 K "Cathode", 11 E "Emitter", 12 C "Collector"
part D pins: 7 A "Anode", 8 K "Cathode", 9 E "Emitter", 10 C "Collector"

## TLP785
designator U?
Signal Transmission between Different Voltage  Circuits
footprint DIP4/W0.3 (4 PIN, W 300mil, Pin to pin 100mil)
pins: 1 A "Anode", 2 K "Cathode", 3 E "Emitter", 4 C "Collector"

## TLV702
designator U?
300-mA, Low-IQ, Low-Dropout Regulator
footprint SOT-23-5
pins: 1 IN, 2 GND, 3 EN, 4 NC, 5 OUT

## TLV710
designator U?, comment TLV710xxxx
Dual, 200mA, Low-IQ  Low-Dropout Regulator; Manufacture: Texas Instruments; Part Number: *; Unit Price: *; Value: *; Supplier: *
footprint DSE (S-PDSO-N6)
pins: 1 EN1, 2 IN, 3 EN2, 4 GND, 5 OUT2, 6 OUT1

## TNY274
designator U?
Off-Line Switcher
footprint DIP8_7 (DIP 8 package with one pin was cut)
pins: 1 EN/UV, 2 BP/M, 4 D, 5 S, 6 S, 7 S, 8 S

## TOP221-7PG
designator IC?, comment TOP221
Family Three-terminal Off-line PWM Switch
footprint DIP8/W0.3 (8 PIN, W 300mil, Pin to pin 100mil)
footprint SO-8 (8-Pin Small Outline Integrated Circuit 1.27 mm Pitch, IPC Medium Density)
pins: 1 S, 2 S, 3 S, 4 C, 5 D, 6 S, 7 S, 8 S
text: 1-8

## TOP221-7Y
designator IC?, comment TOP223
Family Three-terminal Off-line PWM Switch; Designed by: VanDungEvn
footprint QTO-220 (TO-220 - 1-2-3)
pins: 1 C, 2 C, 3 C
text: D; S

## TP
designator TP?, comment 1
CONNECT 1
footprint TP (Footprint not found)
pins: TP1 0

## TP1
designator TP?, comment TP
Test Point; Value: Test Point
footprint TP1 (Test point)
footprint TP6 (Jac cap 6ly)
pins: 1

## TPS5430
designator U?
3-A, Wide Input Range, Step-Down Converter
footprint SOIC-8
pins: 0 PwPd, 1 BOOT, 2 NC, 3 NC, 4 VSENSE, 5 ENA, 6 GND, 7 VIN, 8 PH

## TPS22929D
designator U?
5.5V, 1.8A, 115mΩ Load Switch with Quick Output Discharge and Reverse Current Protection
footprint DBV (R-PDSO-G6)
pins: 1 VOUT, 2 GND, 3 ON, 4 VIN, 5 GND, 6 VIN

## TS3A5017
designator U?
footprint SSOP16_0635_L (SOP, 16-Leads, Body 5.0x4.0mm, Pitch 0.635mm, IPC High Density)
footprint SSOP16_0635_M (SOP, 16-Leads, Body 5.0x4.0mm, Pitch 0.635mm, IPC Low Density)
footprint SSOP16_0635_N (SOP, 16-Leads, Body 5.0x4.0mm, Pitch 0.635mm, IPC Medium Density)
pins: 1 ~{1EN}, 2 IN2, 3 1S4, 4 1S3, 5 1S2, 6 1S1, 7 1D, 8 GND, 9 2D, 10 2S1, 11 2S2, 12 2S3, 13 2S4, 14 IN1, 15 ~{2EN}, 16 V+